# Altium schematic symbol library memory-idt.SCHLIB: 301 symbols (part 1 of 3)
Pins are listed as number, name and electrical type; pins without a type are passive.

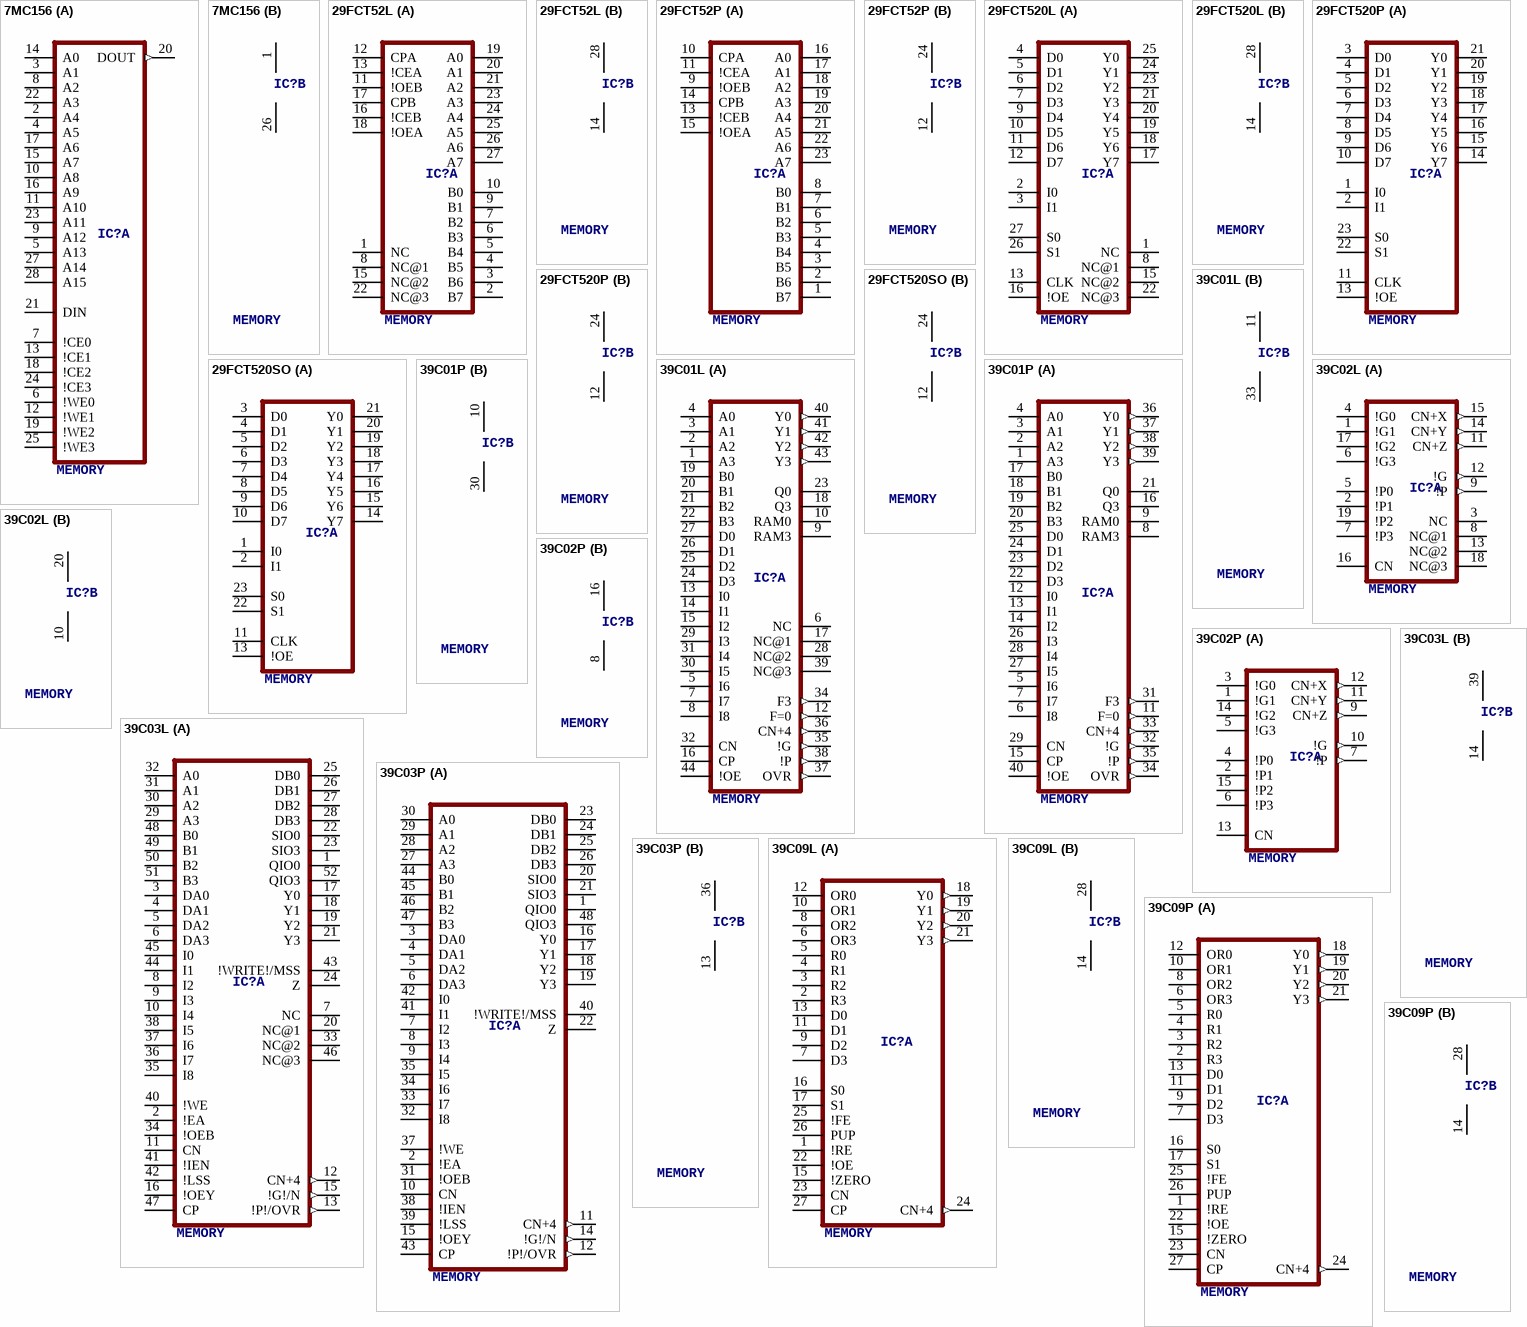
[diagram p0: symbols 7MC156 to 39C09P]

## 7MC156
designator IC?, comment MEMORY
OC_FARNELL: unknown; OC_NEWARK: unknown
footprint M16
part A pins: 2 A4, 3 A1, 4 A5, 5 A13, 6 !WE0, 7 !CE0, 8 A2, 9 A12, 10 A8, 11 A10, 12 !WE1, 13 !CE1, 14 A0, 15 A7, 16 A9, 17 A6, 18 !CE2, 19 !WE2, 20 DOUT (out), 21 DIN, 22 A3, 23 A11, 24 !CE3, 25 !WE3, 27 A14, 28 A15
part B pins: 1 VCC (power), 26 GND (power)

## 29FCT52L
designator IC?, comment MEMORY
OC_FARNELL: unknown; OC_NEWARK: unknown
footprint L28-1
part A pins: 1 NC, 2 B7, 3 B6, 4 B5, 5 B4, 6 B3, 7 B2, 8 NC@1, 9 B1, 10 B0, 11 !OEB, 12 CPA, 13 !CEA, 15 NC@2, 16 !CEB, 17 CPB, 18 !OEA, 19 A0, 20 A1, 21 A2, 22 NC@3, 23 A3, 24 A4, 25 A5, 26 A6, 27 A7
part B pins: 14 GND (power), 28 VCC (power)

## 29FCT52P
designator IC?, comment MEMORY
OC_FARNELL: unknown; OC_NEWARK: unknown
footprint DIL24-6
part A pins: 1 B7, 2 B6, 3 B5, 4 B4, 5 B3, 6 B2, 7 B1, 8 B0, 9 !OEB, 10 CPA, 11 !CEA, 13 !CEB, 14 CPB, 15 !OEA, 16 A0, 17 A1, 18 A2, 19 A3, 20 A4, 21 A5, 22 A6, 23 A7
part B pins: 12 GND (power), 24 VCC (power)

## 29FCT520L
designator IC?, comment MEMORY
OC_FARNELL: unknown; OC_NEWARK: unknown
footprint L28-1
part A pins: 1 NC, 2 I0, 3 I1, 4 D0, 5 D1, 6 D2, 7 D3, 8 NC@1, 9 D4, 10 D5, 11 D6, 12 D7, 13 CLK, 15 NC@2, 16 !OE, 17 Y7, 18 Y6, 19 Y5, 20 Y4, 21 Y3, 22 NC@3, 23 Y2, 24 Y1, 25 Y0, 26 S1, 27 S0
part B pins: 14 GND (power), 28 VCC (power)

## 29FCT520P
designator IC?, comment MEMORY
MPN: CY29FCT520ATPC; OC_FARNELL: 1741456; OC_NEWARK: 50R5497
footprint DIL24-6
part A pins: 1 I0, 2 I1, 3 D0, 4 D1, 5 D2, 6 D3, 7 D4, 8 D5, 9 D6, 10 D7, 11 CLK, 13 !OE, 14 Y7, 15 Y6, 16 Y5, 17 Y4, 18 Y3, 19 Y2, 20 Y1, 21 Y0, 22 S1, 23 S0
part B pins: 12 GND (power), 24 VCC (power)

## 29FCT520SO
designator IC?, comment MEMORY
MPN: CY29FCT520ATSOC; OC_FARNELL: 1407564; OC_NEWARK: 34R7401
footprint SO24-2
part A pins: 1 I0, 2 I1, 3 D0, 4 D1, 5 D2, 6 D3, 7 D4, 8 D5, 9 D6, 10 D7, 11 CLK, 13 !OE, 14 Y7, 15 Y6, 16 Y5, 17 Y4, 18 Y3, 19 Y2, 20 Y1, 21 Y0, 22 S1, 23 S0
part B pins: 12 GND (power), 24 VCC (power)

## 39C01L
designator IC?, comment MEMORY
OC_FARNELL: unknown; OC_NEWARK: unknown
footprint L44-1
part A pins: 1 A3, 2 A2, 3 A1, 4 A0, 5 I6, 6 NC, 7 I7, 8 I8, 9 RAM3, 10 RAM0, 12 F=0 (out), 13 I0, 14 I1, 15 I2, 16 CP, 17 NC@1, 18 Q3, 19 B0, 20 B1, 21 B2, 22 B3, 23 Q0, 24 D3, 25 D2, 26 D1, 27 D0, 28 NC@2, 29 I3, 30 I5, 31 I4, 32 CN, 34 F3 (out), 35 !G (out), 36 CN+4 (out), 37 OVR (out), 38 !P (out), 39 NC@3, 40 Y0 (out), 41 Y1 (out), 42 Y2 (out), 43 Y3 (out), 44 !OE
part B pins: 11 VCC (power), 33 GND (power)

## 39C01P
designator IC?, comment MEMORY
OC_FARNELL: unknown; OC_NEWARK: unknown
footprint DIL40
part A pins: 1 A3, 2 A2, 3 A1, 4 A0, 5 I6, 6 I8, 7 I7, 8 RAM3, 9 RAM0, 11 F=0 (out), 12 I0, 13 I1, 14 I2, 15 CP, 16 Q3, 17 B0, 18 B1, 19 B2, 20 B3, 21 Q0, 22 D3, 23 D2, 24 D1, 25 D0, 26 I3, 27 I5, 28 I4, 29 CN, 31 F3 (out), 32 !G (out), 33 CN+4 (out), 34 OVR (out), 35 !P (out), 36 Y0 (out), 37 Y1 (out), 38 Y2 (out), 39 Y3 (out), 40 !OE
part B pins: 10 VCC (power), 30 GND (power)

## 39C02L
designator IC?, comment MEMORY
OC_FARNELL: unknown; OC_NEWARK: unknown
footprint L20-2
part A pins: 1 !G1, 2 !P1, 3 NC, 4 !G0, 5 !P0, 6 !G3, 7 !P3, 8 NC@1, 9 !P (out), 11 CN+Z (out), 12 !G (out), 13 NC@2, 14 CN+Y (out), 15 CN+X (out), 16 CN, 17 !G2, 18 NC@3, 19 !P2
part B pins: 10 GND (power), 20 VCC (power)

## 39C02P
designator IC?, comment MEMORY
OC_FARNELL: unknown; OC_NEWARK: unknown
footprint DIL16
part A pins: 1 !G1, 2 !P1, 3 !G0, 4 !P0, 5 !G3, 6 !P3, 7 !P (out), 9 CN+Z (out), 10 !G (out), 11 CN+Y (out), 12 CN+X (out), 13 CN, 14 !G2, 15 !P2
part B pins: 8 GND (power), 16 VCC (power)

## 39C03L
designator IC?, comment MEMORY
OC_FARNELL: unknown; OC_NEWARK: unknown
footprint L52-1
part A pins: 1 QIO0, 2 !EA, 3 DA0, 4 DA1, 5 DA2, 6 DA3, 7 NC, 8 I2, 9 I3, 10 I4, 11 CN, 12 CN+4 (out), 13 !P!/OVR (out), 15 !G!/N (out), 16 !OEY, 17 Y0, 18 Y1, 19 Y2, 20 NC@1, 21 Y3, 22 SIO0, 23 SIO3, 24 Z, 25 DB0, 26 DB1, 27 DB2, 28 DB3, 29 A3, 30 A2, 31 A1, 32 A0, 33 NC@2, 34 !OEB, 35 I8, 36 I7, 37 I6, 38 I5, 40 !WE, 41 !IEN, 42 !LSS, 43 !WRITE!/MSS, 44 I1, 45 I0, 46 NC@3, 47 CP, 48 B0, 49 B1, 50 B2, 51 B3, 52 QIO3
part B pins: 14 GND (power), 39 VCC (power)

## 39C03P
designator IC?, comment MEMORY
OC_FARNELL: unknown; OC_NEWARK: unknown
footprint DIL48
part A pins: 1 QIO0, 2 !EA, 3 DA0, 4 DA1, 5 DA2, 6 DA3, 7 I2, 8 I3, 9 I4, 10 CN, 11 CN+4 (out), 12 !P!/OVR (out), 14 !G!/N (out), 15 !OEY, 16 Y0, 17 Y1, 18 Y2, 19 Y3, 20 SIO0, 21 SIO3, 22 Z, 23 DB0, 24 DB1, 25 DB2, 26 DB3, 27 A3, 28 A2, 29 A1, 30 A0, 31 !OEB, 32 I8, 33 I7, 34 I6, 35 I5, 37 !WE, 38 !IEN, 39 !LSS, 40 !WRITE!/MSS, 41 I1, 42 I0, 43 CP, 44 B0, 45 B1, 46 B2, 47 B3, 48 QIO3
part B pins: 13 GND (power), 36 VCC (power)

## 39C09L
designator IC?, comment MEMORY
OC_FARNELL: unknown; OC_NEWARK: unknown
footprint L28-1
part A pins: 1 !RE, 2 R3, 3 R2, 4 R1, 5 R0, 6 OR3, 7 D3, 8 OR2, 9 D2, 10 OR1, 11 D1, 12 OR0, 13 D0, 15 !ZERO, 16 S0, 17 S1, 18 Y0 (out), 19 Y1 (out), 20 Y2 (out), 21 Y3 (out), 22 !OE, 23 CN, 24 CN+4 (out), 25 !FE, 26 PUP, 27 CP
part B pins: 14 GND (power), 28 VCC (power)

## 39C09P
designator IC?, comment MEMORY
OC_FARNELL: unknown; OC_NEWARK: unknown
footprint DIL28-6
part A pins: 1 !RE, 2 R3, 3 R2, 4 R1, 5 R0, 6 OR3, 7 D3, 8 OR2, 9 D2, 10 OR1, 11 D1, 12 OR0, 13 D0, 15 !ZERO, 16 S0, 17 S1, 18 Y0 (out), 19 Y1 (out), 20 Y2 (out), 21 Y3 (out), 22 !OE, 23 CN, 24 CN+4 (out), 25 !FE, 26 PUP, 27 CP
part B pins: 14 GND (power), 28 VCC (power)

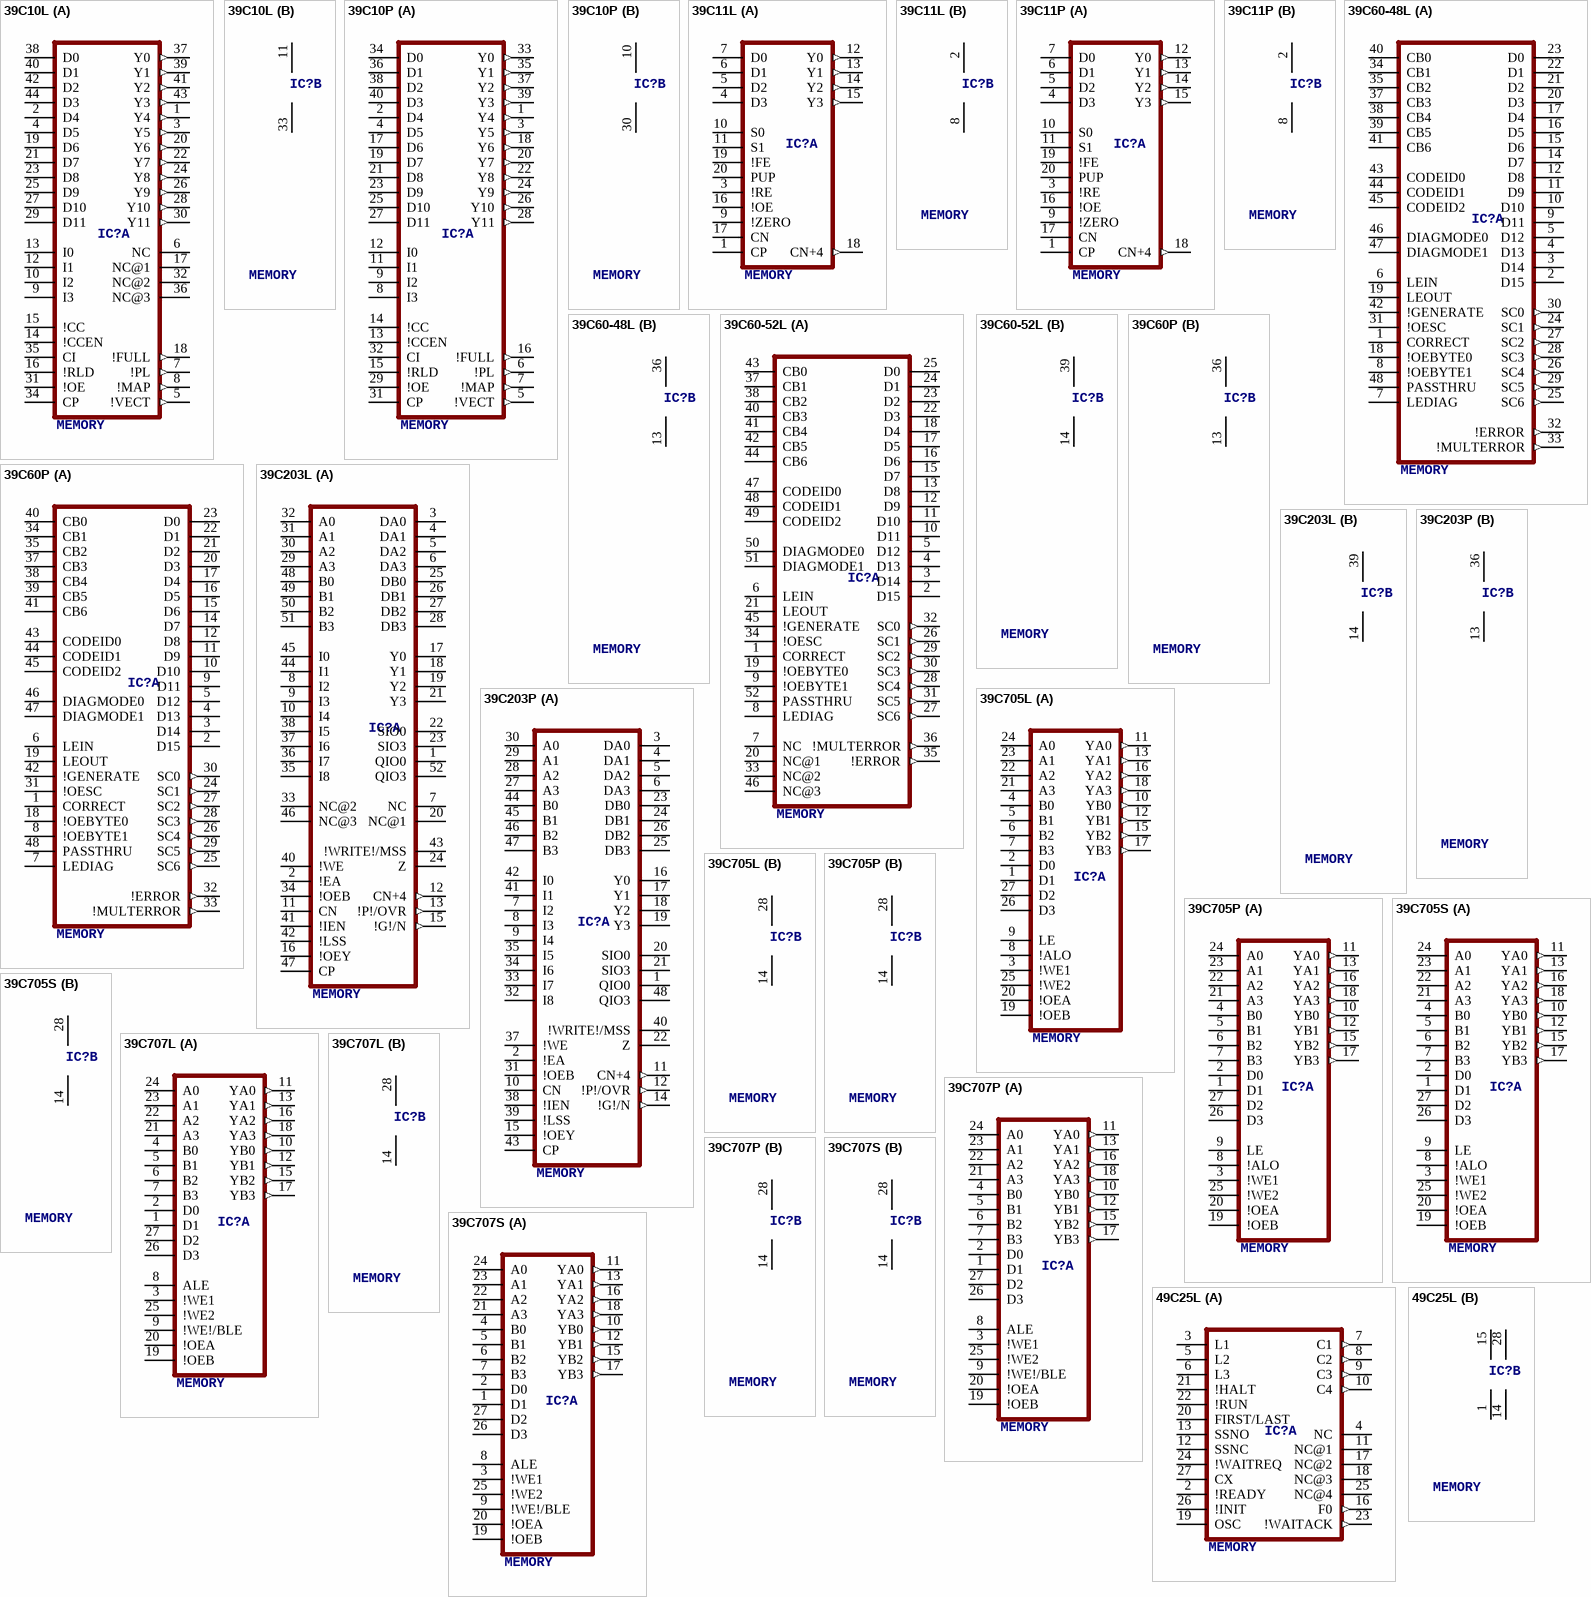
[diagram p1: symbols 39C10L to 49C25L]

## 39C10L
designator IC?, comment MEMORY
OC_FARNELL: unknown; OC_NEWARK: unknown
footprint L44-1
part A pins: 1 Y4 (out), 2 D4, 3 Y5 (out), 4 D5, 5 !VECT (out), 6 NC, 7 !PL (out), 8 !MAP (out), 9 I3, 10 I2, 12 I1, 13 I0, 14 !CCEN, 15 !CC, 16 !RLD, 17 NC@1, 18 !FULL (out), 19 D6, 20 Y6 (out), 21 D7, 22 Y7 (out), 23 D8, 24 Y8 (out), 25 D9, 26 Y9 (out), 27 D10, 28 Y10 (out), 29 D11, 30 Y11 (out), 31 !OE, 32 NC@2, 34 CP, 35 CI, 36 NC@3, 37 Y0 (out), 38 D0, 39 Y1 (out), 40 D1, 41 Y2 (out), 42 D2, 43 Y3 (out), 44 D3
part B pins: 11 VCC (power), 33 GND (power)

## 39C10P
designator IC?, comment MEMORY
OC_FARNELL: unknown; OC_NEWARK: unknown
footprint DIL40
part A pins: 1 Y4 (out), 2 D4, 3 Y5 (out), 4 D5, 5 !VECT (out), 6 !PL (out), 7 !MAP (out), 8 I3, 9 I2, 11 I1, 12 I0, 13 !CCEN, 14 !CC, 15 !RLD, 16 !FULL (out), 17 D6, 18 Y6 (out), 19 D7, 20 Y7 (out), 21 D8, 22 Y8 (out), 23 D9, 24 Y9 (out), 25 D10, 26 Y10 (out), 27 D11, 28 Y11 (out), 29 !OE, 31 CP, 32 CI, 33 Y0 (out), 34 D0, 35 Y1 (out), 36 D1, 37 Y2 (out), 38 D2, 39 Y3 (out), 40 D3
part B pins: 10 VCC (power), 30 GND (power)

## 39C11L
designator IC?, comment MEMORY
OC_FARNELL: unknown; OC_NEWARK: unknown
footprint L20-2
part A pins: 1 CP, 3 !RE, 4 D3, 5 D2, 6 D1, 7 D0, 9 !ZERO, 10 S0, 11 S1, 12 Y0 (out), 13 Y1 (out), 14 Y2 (out), 15 Y3 (out), 16 !OE, 17 CN, 18 CN+4 (out), 19 !FE, 20 PUP
part B pins: 2 VCC (power), 8 GND (power)

## 39C11P
designator IC?, comment MEMORY
OC_FARNELL: unknown; OC_NEWARK: unknown
footprint DIL20
part A pins: 1 CP, 3 !RE, 4 D3, 5 D2, 6 D1, 7 D0, 9 !ZERO, 10 S0, 11 S1, 12 Y0 (out), 13 Y1 (out), 14 Y2 (out), 15 Y3 (out), 16 !OE, 17 CN, 18 CN+4 (out), 19 !FE, 20 PUP
part B pins: 2 VCC (power), 8 GND (power)

## 39C60-48L
designator IC?, comment MEMORY
OC_FARNELL: unknown; OC_NEWARK: unknown
footprint L48-1
part A pins: 1 CORRECT, 2 D15, 3 D14, 4 D13, 5 D12, 6 LEIN, 7 LEDIAG, 8 !OEBYTE1, 9 D11, 10 D10, 11 D9, 12 D8, 14 D7, 15 D6, 16 D5, 17 D4, 18 !OEBYTE0, 19 LEOUT, 20 D3, 21 D2, 22 D1, 23 D0, 24 SC1 (out), 25 SC6 (out), 26 SC4 (out), 27 SC2 (out), 28 SC3 (out), 29 SC5 (out), 30 SC0 (out), 31 !OESC, 32 !ERROR (out), 33 !MULTERROR (out), 34 CB1, 35 CB2, 37 CB3, 38 CB4, 39 CB5, 40 CB0, 41 CB6, 42 !GENERATE, 43 CODEID0, 44 CODEID1, 45 CODEID2, 46 DIAGMODE0, 47 DIAGMODE1, 48 PASSTHRU
part B pins: 13 GND (power), 36 VCC (power)

## 39C60-52L
designator IC?, comment MEMORY
OC_FARNELL: unknown; OC_NEWARK: unknown
footprint L52-1
part A pins: 1 CORRECT, 2 D15, 3 D14, 4 D13, 5 D12, 6 LEIN, 7 NC, 8 LEDIAG, 9 !OEBYTE1, 10 D11, 11 D10, 12 D9, 13 D8, 15 D7, 16 D6, 17 D5, 18 D4, 19 !OEBYTE0, 20 NC@1, 21 LEOUT, 22 D3, 23 D2, 24 D1, 25 D0, 26 SC1 (out), 27 SC6 (out), 28 SC4 (out), 29 SC2 (out), 30 SC3 (out), 31 SC5 (out), 32 SC0 (out), 33 NC@2, 34 !OESC, 35 !ERROR (out), 36 !MULTERROR (out), 37 CB1, 38 CB2, 40 CB3, 41 CB4, 42 CB5, 43 CB0, 44 CB6, 45 !GENERATE, 46 NC@3, 47 CODEID0, 48 CODEID1, 49 CODEID2, 50 DIAGMODE0, 51 DIAGMODE1, 52 PASSTHRU
part B pins: 14 GND (power), 39 VCC (power)

## 39C60P
designator IC?, comment MEMORY
OC_FARNELL: unknown; OC_NEWARK: unknown
footprint DIL48
part A pins: 1 CORRECT, 2 D15, 3 D14, 4 D13, 5 D12, 6 LEIN, 7 LEDIAG, 8 !OEBYTE1, 9 D11, 10 D10, 11 D9, 12 D8, 14 D7, 15 D6, 16 D5, 17 D4, 18 !OEBYTE0, 19 LEOUT, 20 D3, 21 D2, 22 D1, 23 D0, 24 SC1 (out), 25 SC6 (out), 26 SC4 (out), 27 SC2 (out), 28 SC3 (out), 29 SC5 (out), 30 SC0 (out), 31 !OESC, 32 !ERROR (out), 33 !MULTERROR (out), 34 CB1, 35 CB2, 37 CB3, 38 CB4, 39 CB5, 40 CB0, 41 CB6, 42 !GENERATE, 43 CODEID0, 44 CODEID1, 45 CODEID2, 46 DIAGMODE0, 47 DIAGMODE1, 48 PASSTHRU
part B pins: 13 GND (power), 36 VCC (power)

## 39C203L
designator IC?, comment MEMORY
OC_FARNELL: unknown; OC_NEWARK: unknown
footprint L52-1
part A pins: 1 QIO0, 2 !EA, 3 DA0, 4 DA1, 5 DA2, 6 DA3, 7 NC, 8 I2, 9 I3, 10 I4, 11 CN, 12 CN+4 (out), 13 !P!/OVR (out), 15 !G!/N (out), 16 !OEY, 17 Y0, 18 Y1, 19 Y2, 20 NC@1, 21 Y3, 22 SIO0, 23 SIO3, 24 Z, 25 DB0, 26 DB1, 27 DB2, 28 DB3, 29 A3, 30 A2, 31 A1, 32 A0, 33 NC@2, 34 !OEB, 35 I8, 36 I7, 37 I6, 38 I5, 40 !WE, 41 !IEN, 42 !LSS, 43 !WRITE!/MSS, 44 I1, 45 I0, 46 NC@3, 47 CP, 48 B0, 49 B1, 50 B2, 51 B3, 52 QIO3
part B pins: 14 GND (power), 39 VCC (power)

## 39C203P
designator IC?, comment MEMORY
OC_FARNELL: unknown; OC_NEWARK: unknown
footprint DIL48
part A pins: 1 QIO0, 2 !EA, 3 DA0, 4 DA1, 5 DA2, 6 DA3, 7 I2, 8 I3, 9 I4, 10 CN, 11 CN+4 (out), 12 !P!/OVR (out), 14 !G!/N (out), 15 !OEY, 16 Y0, 17 Y1, 18 Y2, 19 Y3, 20 SIO0, 21 SIO3, 22 Z, 23 DB0, 24 DB1, 25 DB3, 26 DB2, 27 A3, 28 A2, 29 A1, 30 A0, 31 !OEB, 32 I8, 33 I7, 34 I6, 35 I5, 37 !WE, 38 !IEN, 39 !LSS, 40 !WRITE!/MSS, 41 I1, 42 I0, 43 CP, 44 B0, 45 B1, 46 B2, 47 B3, 48 QIO3
part B pins: 13 GND (power), 36 VCC (power)

## 39C705L
designator IC?, comment MEMORY
OC_FARNELL: unknown; OC_NEWARK: unknown
footprint L28-1
part A pins: 1 D1, 2 D0, 3 !WE1, 4 B0, 5 B1, 6 B2, 7 B3, 8 !ALO, 9 LE, 10 YB0 (out), 11 YA0 (out), 12 YB1 (out), 13 YA1 (out), 15 YB2 (out), 16 YA2 (out), 17 YB3 (out), 18 YA3 (out), 19 !OEB, 20 !OEA, 21 A3, 22 A2, 23 A1, 24 A0, 25 !WE2, 26 D3, 27 D2
part B pins: 14 GND (power), 28 VCC (power)

## 39C705P
designator IC?, comment MEMORY
OC_FARNELL: unknown; OC_NEWARK: unknown
footprint DIL28-6
part A pins: 1 D1, 2 D0, 3 !WE1, 4 B0, 5 B1, 6 B2, 7 B3, 8 !ALO, 9 LE, 10 YB0 (out), 11 YA0 (out), 12 YB1 (out), 13 YA1 (out), 15 YB2 (out), 16 YA2 (out), 17 YB3 (out), 18 YA3 (out), 19 !OEB, 20 !OEA, 21 A3, 22 A2, 23 A1, 24 A0, 25 !WE2, 26 D3, 27 D2
part B pins: 14 GND (power), 28 VCC (power)

## 39C705S
designator IC?, comment MEMORY
OC_FARNELL: unknown; OC_NEWARK: unknown
footprint SO28-3
part A pins: 1 D1, 2 D0, 3 !WE1, 4 B0, 5 B1, 6 B2, 7 B3, 8 !ALO, 9 LE, 10 YB0 (out), 11 YA0 (out), 12 YB1 (out), 13 YA1 (out), 15 YB2 (out), 16 YA2 (out), 17 YB3 (out), 18 YA3 (out), 19 !OEB, 20 !OEA, 21 A3, 22 A2, 23 A1, 24 A0, 25 !WE2, 26 D3, 27 D2
part B pins: 14 GND (power), 28 VCC (power)

## 39C707L
designator IC?, comment MEMORY
OC_FARNELL: unknown; OC_NEWARK: unknown
footprint L28-1
part A pins: 1 D1, 2 D0, 3 !WE1, 4 B0, 5 B1, 6 B2, 7 B3, 8 ALE, 9 !WE!/BLE, 10 YB0 (out), 11 YA0 (out), 12 YB1 (out), 13 YA1 (out), 15 YB2 (out), 16 YA2 (out), 17 YB3 (out), 18 YA3 (out), 19 !OEB, 20 !OEA, 21 A3, 22 A2, 23 A1, 24 A0, 25 !WE2, 26 D3, 27 D2
part B pins: 14 GND (power), 28 VCC (power)

## 39C707P
designator IC?, comment MEMORY
OC_FARNELL: unknown; OC_NEWARK: unknown
footprint DIL28-6
part A pins: 1 D1, 2 D0, 3 !WE1, 4 B0, 5 B1, 6 B2, 7 B3, 8 ALE, 9 !WE!/BLE, 10 YB0 (out), 11 YA0 (out), 12 YB1 (out), 13 YA1 (out), 15 YB2 (out), 16 YA2 (out), 17 YB3 (out), 18 YA3 (out), 19 !OEB, 20 !OEA, 21 A3, 22 A2, 23 A1, 24 A0, 25 !WE2, 26 D3, 27 D2
part B pins: 14 GND (power), 28 VCC (power)

## 39C707S
designator IC?, comment MEMORY
OC_FARNELL: unknown; OC_NEWARK: unknown
footprint SO28-3
part A pins: 1 D1, 2 D0, 3 !WE1, 4 B0, 5 B1, 6 B2, 7 B3, 8 ALE, 9 !WE!/BLE, 10 YB0 (out), 11 YA0 (out), 12 YB1 (out), 13 YA1 (out), 15 YB2 (out), 16 YA2 (out), 17 YB3 (out), 18 YA3 (out), 19 !OEB, 20 !OEA, 21 A3, 22 A2, 23 A1, 24 A0, 25 !WE2, 26 D3, 27 D2
part B pins: 14 GND (power), 28 VCC (power)

## 49C25L
designator IC?, comment MEMORY
OC_FARNELL: unknown; OC_NEWARK: unknown
footprint L28-1
part A pins: 2 !READY, 3 L1, 4 NC, 5 L2, 6 L3, 7 C1 (out), 8 C2 (out), 9 C3 (out), 10 C4 (out), 11 NC@1, 12 SSNC, 13 SSNO, 16 F0 (out), 17 NC@2, 18 NC@3, 19 OSC, 20 FIRST/LAST, 21 !HALT, 22 !RUN, 23 !WAITACK (out), 24 !WAITREQ, 25 NC@4, 26 !INIT, 27 CX
part B pins: 1 GND (power), 14 GND@1 (power), 15 VCC (power), 28 VCC@1 (power)

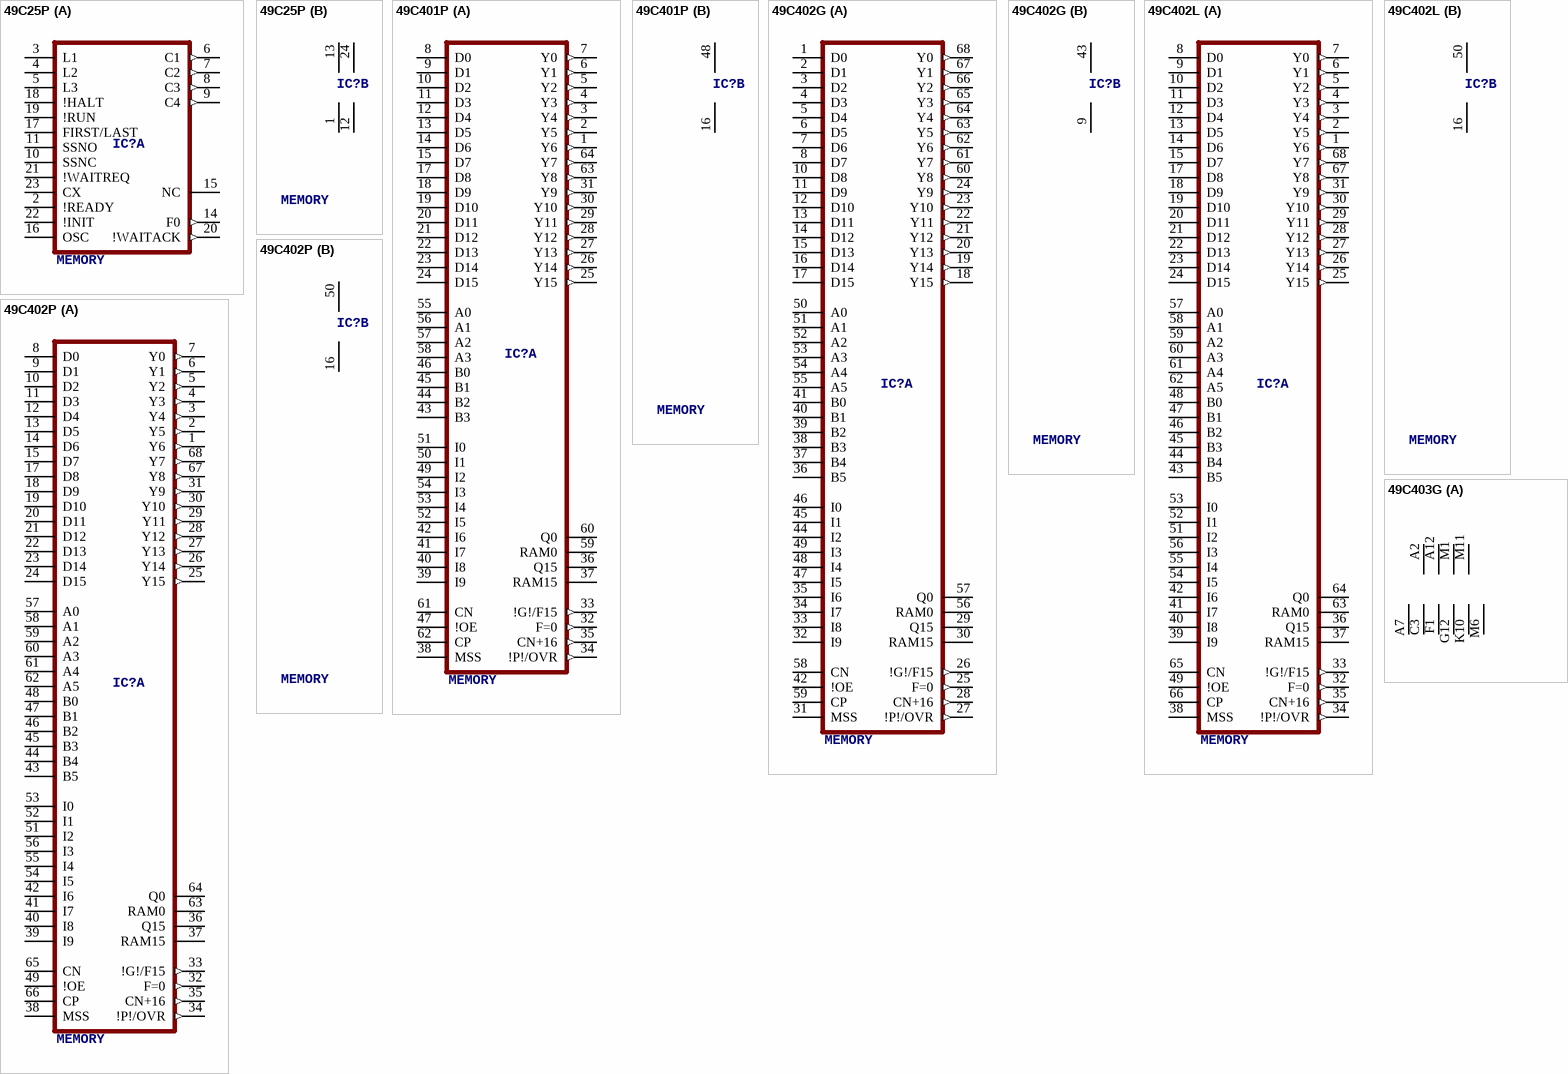
[diagram p2: symbols 49C25P to 49C403G]

## 49C25P
designator IC?, comment MEMORY
OC_FARNELL: unknown; OC_NEWARK: unknown
footprint DIL24-6
part A pins: 2 !READY, 3 L1, 4 L2, 5 L3, 6 C1 (out), 7 C2 (out), 8 C3 (out), 9 C4 (out), 10 SSNC, 11 SSNO, 14 F0 (out), 15 NC, 16 OSC, 17 FIRST/LAST, 18 !HALT, 19 !RUN, 20 !WAITACK (out), 21 !WAITREQ, 22 !INIT, 23 CX
part B pins: 1 GND (power), 12 GND@1 (power), 13 VCC (power), 24 VCC@1 (power)

## 49C401P
designator IC?, comment MEMORY
OC_FARNELL: unknown; OC_NEWARK: unknown
footprint C64-1
part A pins: 1 Y6 (out), 2 Y5 (out), 3 Y4 (out), 4 Y3 (out), 5 Y2 (out), 6 Y1 (out), 7 Y0 (out), 8 D0, 9 D1, 10 D2, 11 D3, 12 D4, 13 D5, 14 D6, 15 D7, 17 D8, 18 D9, 19 D10, 20 D11, 21 D12, 22 D13, 23 D14, 24 D15, 25 Y15 (out), 26 Y14 (out), 27 Y13 (out), 28 Y12 (out), 29 Y11 (out), 30 Y10 (out), 31 Y9 (out), 32 F=0 (out), 33 !G!/F15 (out), 34 !P!/OVR (out), 35 CN+16 (out), 36 Q15, 37 RAM15, 38 MSS, 39 I9, 40 I8, 41 I7, 42 I6, 43 B3, 44 B2, 45 B1, 46 B0, 47 !OE, 49 I2, 50 I1, 51 I0, 52 I5, 53 I4, 54 I3, 55 A0, 56 A1, 57 A2, 58 A3, 59 RAM0, 60 Q0, 61 CN, 62 CP, 63 Y8 (out), 64 Y7 (out)
part B pins: 16 GND (power), 48 VCC (power)

## 49C402G
designator IC?, comment MEMORY
OC_FARNELL: unknown; OC_NEWARK: unknown
footprint G68-1
part A pins: 1 D0, 2 D1, 3 D2, 4 D3, 5 D4, 6 D5, 7 D6, 8 D7, 10 D8, 11 D9, 12 D10, 13 D11, 14 D12, 15 D13, 16 D14, 17 D15, 18 Y15 (out), 19 Y14 (out), 20 Y13 (out), 21 Y12 (out), 22 Y11 (out), 23 Y10 (out), 24 Y9 (out), 25 F=0 (out), 26 !G!/F15 (out), 27 !P!/OVR (out), 28 CN+16 (out), 29 Q15, 30 RAM15, 31 MSS, 32 I9, 33 I8, 34 I7, 35 I6, 36 B5, 37 B4, 38 B3, 39 B2, 40 B1, 41 B0, 42 !OE, 44 I2, 45 I1, 46 I0, 47 I5, 48 I4, 49 I3, 50 A0, 51 A1, 52 A2, 53 A3, 54 A4, 55 A5, 56 RAM0, 57 Q0, 58 CN, 59 CP, 60 Y8 (out), 61 Y7 (out), 62 Y6 (out), 63 Y5 (out), 64 Y4 (out), 65 Y3 (out), 66 Y2 (out), 67 Y1 (out), 68 Y0 (out)
part B pins: 9 GND (power), 43 VCC (power)

## 49C402L
designator IC?, comment MEMORY
OC_FARNELL: unknown; OC_NEWARK: unknown
footprint L68-2
part A pins: 1 Y6 (out), 2 Y5 (out), 3 Y4 (out), 4 Y3 (out), 5 Y2 (out), 6 Y1 (out), 7 Y0 (out), 8 D0, 9 D1, 10 D2, 11 D3, 12 D4, 13 D5, 14 D6, 15 D7, 17 D8, 18 D9, 19 D10, 20 D11, 21 D12, 22 D13, 23 D14, 24 D15, 25 Y15 (out), 26 Y14 (out), 27 Y13 (out), 28 Y12 (out), 29 Y11 (out), 30 Y10 (out), 31 Y9 (out), 32 F=0 (out), 33 !G!/F15 (out), 34 !P!/OVR (out), 35 CN+16 (out), 36 Q15, 37 RAM15, 38 MSS, 39 I9, 40 I8, 41 I7, 42 I6, 43 B5, 44 B4, 45 B3, 46 B2, 47 B1, 48 B0, 49 !OE, 51 I2, 52 I1, 53 I0, 54 I5, 55 I4, 56 I3, 57 A0, 58 A1, 59 A2, 60 A3, 61 A4, 62 A5, 63 RAM0, 64 Q0, 65 CN, 66 CP, 67 Y8 (out), 68 Y7 (out)
part B pins: 16 GND (power), 50 VCC (power)

## 49C402P
designator IC?, comment MEMORY
OC_FARNELL: unknown; OC_NEWARK: unknown
footprint C68-1
part A pins: 1 Y6 (out), 2 Y5 (out), 3 Y4 (out), 4 Y3 (out), 5 Y2 (out), 6 Y1 (out), 7 Y0 (out), 8 D0, 9 D1, 10 D2, 11 D3, 12 D4, 13 D5, 14 D6, 15 D7, 17 D8, 18 D9, 19 D10, 20 D11, 21 D12, 22 D13, 23 D14, 24 D15, 25 Y15 (out), 26 Y14 (out), 27 Y13 (out), 28 Y12 (out), 29 Y11 (out), 30 Y10 (out), 31 Y9 (out), 32 F=0 (out), 33 !G!/F15 (out), 34 !P!/OVR (out), 35 CN+16 (out), 36 Q15, 37 RAM15, 38 MSS, 39 I9, 40 I8, 41 I7, 42 I6, 43 B5, 44 B4, 45 B3, 46 B2, 47 B1, 48 B0, 49 !OE, 51 I2, 52 I1, 53 I0, 54 I5, 55 I4, 56 I3, 57 A0, 58 A1, 59 A2, 60 A3, 61 A4, 62 A5, 63 RAM0, 64 Q0, 65 CN, 66 CP, 67 Y8 (out), 68 Y7 (out)
part B pins: 16 GND (power), 50 VCC (power)

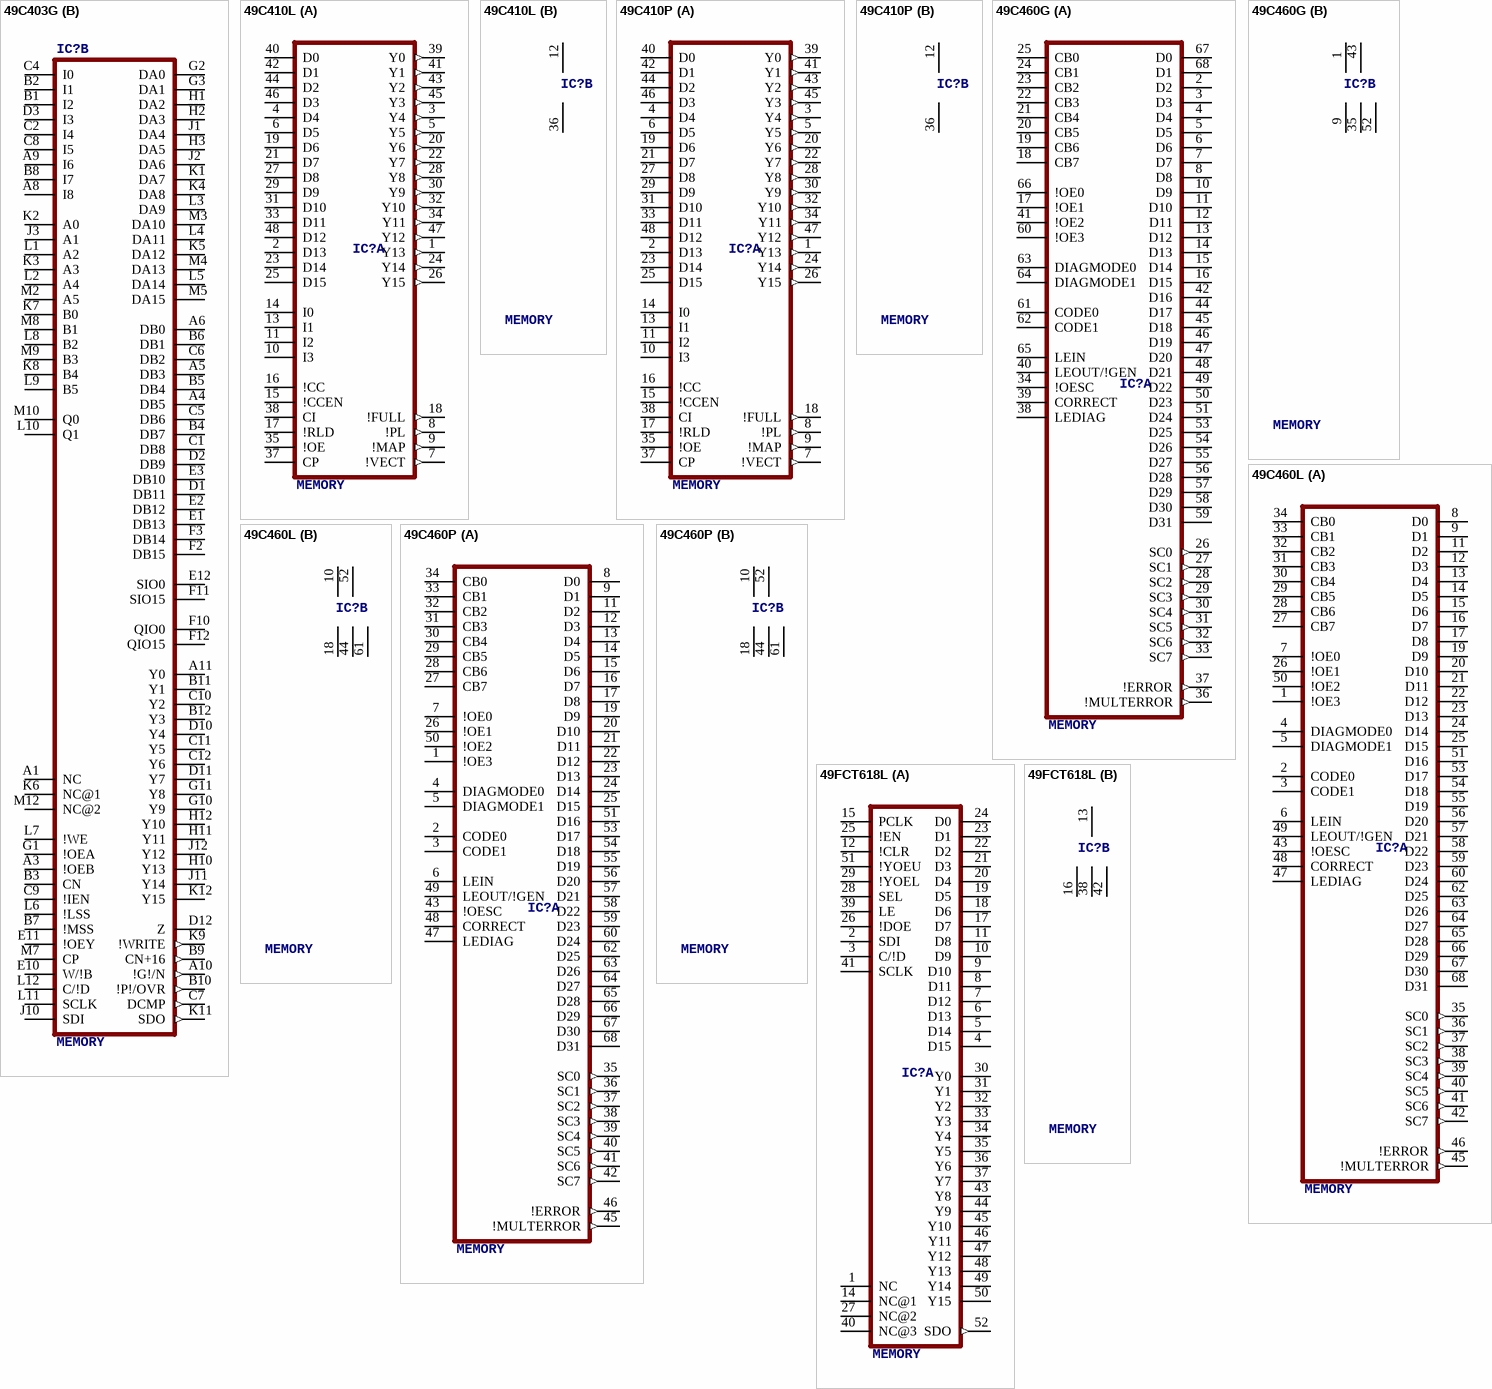
[diagram p3: symbols 49C403G to 49FCT618L]

## 49C403G
designator IC?, comment MEMORY
OC_FARNELL: unknown; OC_NEWARK: unknown
footprint PGA-108
part A pins: A2 VCC (power), A7 GND (power), A12 VCC@1 (power), C3 GND@1 (power), F1 GND@2 (power), G12 GND@3 (power), K10 GND@4 (power), M1 VCC@2 (power), M6 GND@5 (power), M11 VCC@3 (power)
part B pins: A1 NC, A3 !OEB, A4 DB5, A5 DB3, A6 DB0, A8 I8, A9 I6, A10 !G!/N (out), A11 Y0, B1 I2, B2 I1, B3 CN, B4 DB7, B5 DB4, B6 DB1, B7 !MSS, B8 I7, B9 CN+16 (out), B10 !P!/OVR (out), B11 Y1, B12 Y3, C1 DB8, C2 I4, C4 I0, C5 DB6, C6 DB2, C7 DCMP (out), C8 I5, C9 !IEN, C10 Y2, C11 Y5, C12 Y6, D1 DB11, D2 DB9, D3 I3, D10 Y4, D11 Y7, D12 Z, E1 DB13, E2 DB12, E3 DB10, E10 W/!B, E11 !OEY, E12 SIO0, F2 DB15, F3 DB14, F10 QIO0, F11 SIO15, F12 QIO15, G1 !OEA, G2 DA0, G3 DA1, G10 Y9, G11 Y8, H1 DA2, H2 DA3, H3 DA5, H10 Y13, H11 Y11, H12 Y10, J1 DA4, J2 DA6, J3 A1, J10 SDI, J11 Y14, J12 Y12, K1 DA7, K2 A0, K3 A3, K4 DA8, K5 DA12, K6 NC@1, K7 B0, K8 B4, K9 !WRITE (out), K11 SDO (out), K12 Y15, L1 A2, L2 A4, L3 DA9, L4 DA11, L5 DA14, L6 !LSS, L7 !WE, L8 B2, L9 B5, L10 Q1, L11 SCLK, L12 C/!D, M2 A5, M3 DA10, M4 DA13, M5 DA15, M7 CP, M8 B1, M9 B3, M10 Q0, M12 NC@2

## 49C410L
designator IC?, comment MEMORY
OC_FARNELL: unknown; OC_NEWARK: unknown
footprint L48-1
part A pins: 1 Y13 (out), 2 D13, 3 Y4 (out), 4 D4, 5 Y5 (out), 6 D5, 7 !VECT (out), 8 !PL (out), 9 !MAP (out), 10 I3, 11 I2, 13 I1, 14 I0, 15 !CCEN, 16 !CC, 17 !RLD, 18 !FULL (out), 19 D6, 20 Y6 (out), 21 D7, 22 Y7 (out), 23 D14, 24 Y14 (out), 25 D15, 26 Y15 (out), 27 D8, 28 Y8 (out), 29 D9, 30 Y9 (out), 31 D10, 32 Y10 (out), 33 D11, 34 Y11 (out), 35 !OE, 37 CP, 38 CI, 39 Y0 (out), 40 D0, 41 Y1 (out), 42 D1, 43 Y2 (out), 44 D2, 45 Y3 (out), 46 D3, 47 Y12 (out), 48 D12
part B pins: 12 VCC (power), 36 GND (power)

## 49C410P
designator IC?, comment MEMORY
OC_FARNELL: unknown; OC_NEWARK: unknown
footprint DIL48
part A pins: 1 Y13 (out), 2 D13, 3 Y4 (out), 4 D4, 5 Y5 (out), 6 D5, 7 !VECT (out), 8 !PL (out), 9 !MAP (out), 10 I3, 11 I2, 13 I1, 14 I0, 15 !CCEN, 16 !CC, 17 !RLD, 18 !FULL (out), 19 D6, 20 Y6 (out), 21 D7, 22 Y7 (out), 23 D14, 24 Y14 (out), 25 D15, 26 Y15 (out), 27 D8, 28 Y8 (out), 29 D9, 30 Y9 (out), 31 D10, 32 Y10 (out), 33 D11, 34 Y11 (out), 35 !OE, 37 CP, 38 CI, 39 Y0 (out), 40 D0, 41 Y1 (out), 42 D1, 43 Y2 (out), 44 D2, 45 Y3 (out), 46 D3, 47 Y12 (out), 48 D12
part B pins: 12 VCC (power), 36 GND (power)

## 49C460G
designator IC?, comment MEMORY
OC_FARNELL: unknown; OC_NEWARK: unknown
footprint G68-1
part A pins: 2 D2, 3 D3, 4 D4, 5 D5, 6 D6, 7 D7, 8 D8, 10 D9, 11 D10, 12 D11, 13 D12, 14 D13, 15 D14, 16 D15, 17 !OE1, 18 CB7, 19 CB6, 20 CB5, 21 CB4, 22 CB3, 23 CB2, 24 CB1, 25 CB0, 26 SC0 (out), 27 SC1 (out), 28 SC2 (out), 29 SC3 (out), 30 SC4 (out), 31 SC5 (out), 32 SC6 (out), 33 SC7 (out), 34 !OESC, 36 !MULTERROR (out), 37 !ERROR (out), 38 LEDIAG, 39 CORRECT, 40 LEOUT/!GEN, 41 !OE2, 42 D16, 44 D17, 45 D18, 46 D19, 47 D20, 48 D21, 49 D22, 50 D23, 51 D24, 53 D25, 54 D26, 55 D27, 56 D28, 57 D29, 58 D30, 59 D31, 60 !OE3, 61 CODE0, 62 CODE1, 63 DIAGMODE0, 64 DIAGMODE1, 65 LEIN, 66 !OE0, 67 D0, 68 D1
part B pins: 1 VCC (power), 9 GND (power), 35 GND@1 (power), 43 VCC@1 (power), 52 GND@2 (power)

## 49C460L
designator IC?, comment MEMORY
OC_FARNELL: unknown; OC_NEWARK: unknown
footprint L68-2
part A pins: 1 !OE3, 2 CODE0, 3 CODE1, 4 DIAGMODE0, 5 DIAGMODE1, 6 LEIN, 7 !OE0, 8 D0, 9 D1, 11 D2, 12 D3, 13 D4, 14 D5, 15 D6, 16 D7, 17 D8, 19 D9, 20 D10, 21 D11, 22 D12, 23 D13, 24 D14, 25 D15, 26 !OE1, 27 CB7, 28 CB6, 29 CB5, 30 CB4, 31 CB3, 32 CB2, 33 CB1, 34 CB0, 35 SC0 (out), 36 SC1 (out), 37 SC2 (out), 38 SC3 (out), 39 SC4 (out), 40 SC5 (out), 41 SC6 (out), 42 SC7 (out), 43 !OESC, 45 !MULTERROR (out), 46 !ERROR (out), 47 LEDIAG, 48 CORRECT, 49 LEOUT/!GEN, 50 !OE2, 51 D16, 53 D17, 54 D18, 55 D19, 56 D20, 57 D21, 58 D22, 59 D23, 60 D24, 62 D25, 63 D26, 64 D27, 65 D28, 66 D29, 67 D30, 68 D31
part B pins: 10 VCC (power), 18 GND (power), 44 GND@1 (power), 52 VCC@1 (power), 61 GND@2 (power)

## 49C460P
designator IC?, comment MEMORY
OC_FARNELL: unknown; OC_NEWARK: unknown
footprint C68-1
part A pins: 1 !OE3, 2 CODE0, 3 CODE1, 4 DIAGMODE0, 5 DIAGMODE1, 6 LEIN, 7 !OE0, 8 D0, 9 D1, 11 D2, 12 D3, 13 D4, 14 D5, 15 D6, 16 D7, 17 D8, 19 D9, 20 D10, 21 D11, 22 D12, 23 D13, 24 D14, 25 D15, 26 !OE1, 27 CB7, 28 CB6, 29 CB5, 30 CB4, 31 CB3, 32 CB2, 33 CB1, 34 CB0, 35 SC0 (out), 36 SC1 (out), 37 SC2 (out), 38 SC3 (out), 39 SC4 (out), 40 SC5 (out), 41 SC6 (out), 42 SC7 (out), 43 !OESC, 45 !MULTERROR (out), 46 !ERROR (out), 47 LEDIAG, 48 CORRECT, 49 LEOUT/!GEN, 50 !OE2, 51 D16, 53 D17, 54 D18, 55 D19, 56 D20, 57 D21, 58 D22, 59 D23, 60 D24, 62 D25, 63 D26, 64 D27, 65 D28, 66 D29, 67 D30, 68 D31
part B pins: 10 VCC (power), 18 GND (power), 44 GND@1 (power), 52 VCC@1 (power), 61 GND@2 (power)

## 49FCT618L
designator IC?, comment MEMORY
OC_FARNELL: unknown; OC_NEWARK: unknown
footprint L52-1
part A pins: 1 NC, 2 SDI, 3 C/!D, 4 D15, 5 D14, 6 D13, 7 D12, 8 D11, 9 D10, 10 D9, 11 D8, 12 !CLR, 14 NC@1, 15 PCLK, 17 D7, 18 D6, 19 D5, 20 D4, 21 D3, 22 D2, 23 D1, 24 D0, 25 !EN, 26 !DOE, 27 NC@2, 28 SEL, 29 !YOEL, 30 Y0, 31 Y1, 32 Y2, 33 Y3, 34 Y4, 35 Y5, 36 Y6, 37 Y7, 39 LE, 40 NC@3, 41 SCLK, 43 Y8, 44 Y9, 45 Y10, 46 Y11, 47 Y12, 48 Y13, 49 Y14, 50 Y15, 51 !YOEU, 52 SDO (out)
part B pins: 13 VCC (power), 16 GND (power), 38 GND@1 (power), 42 GND@2 (power)

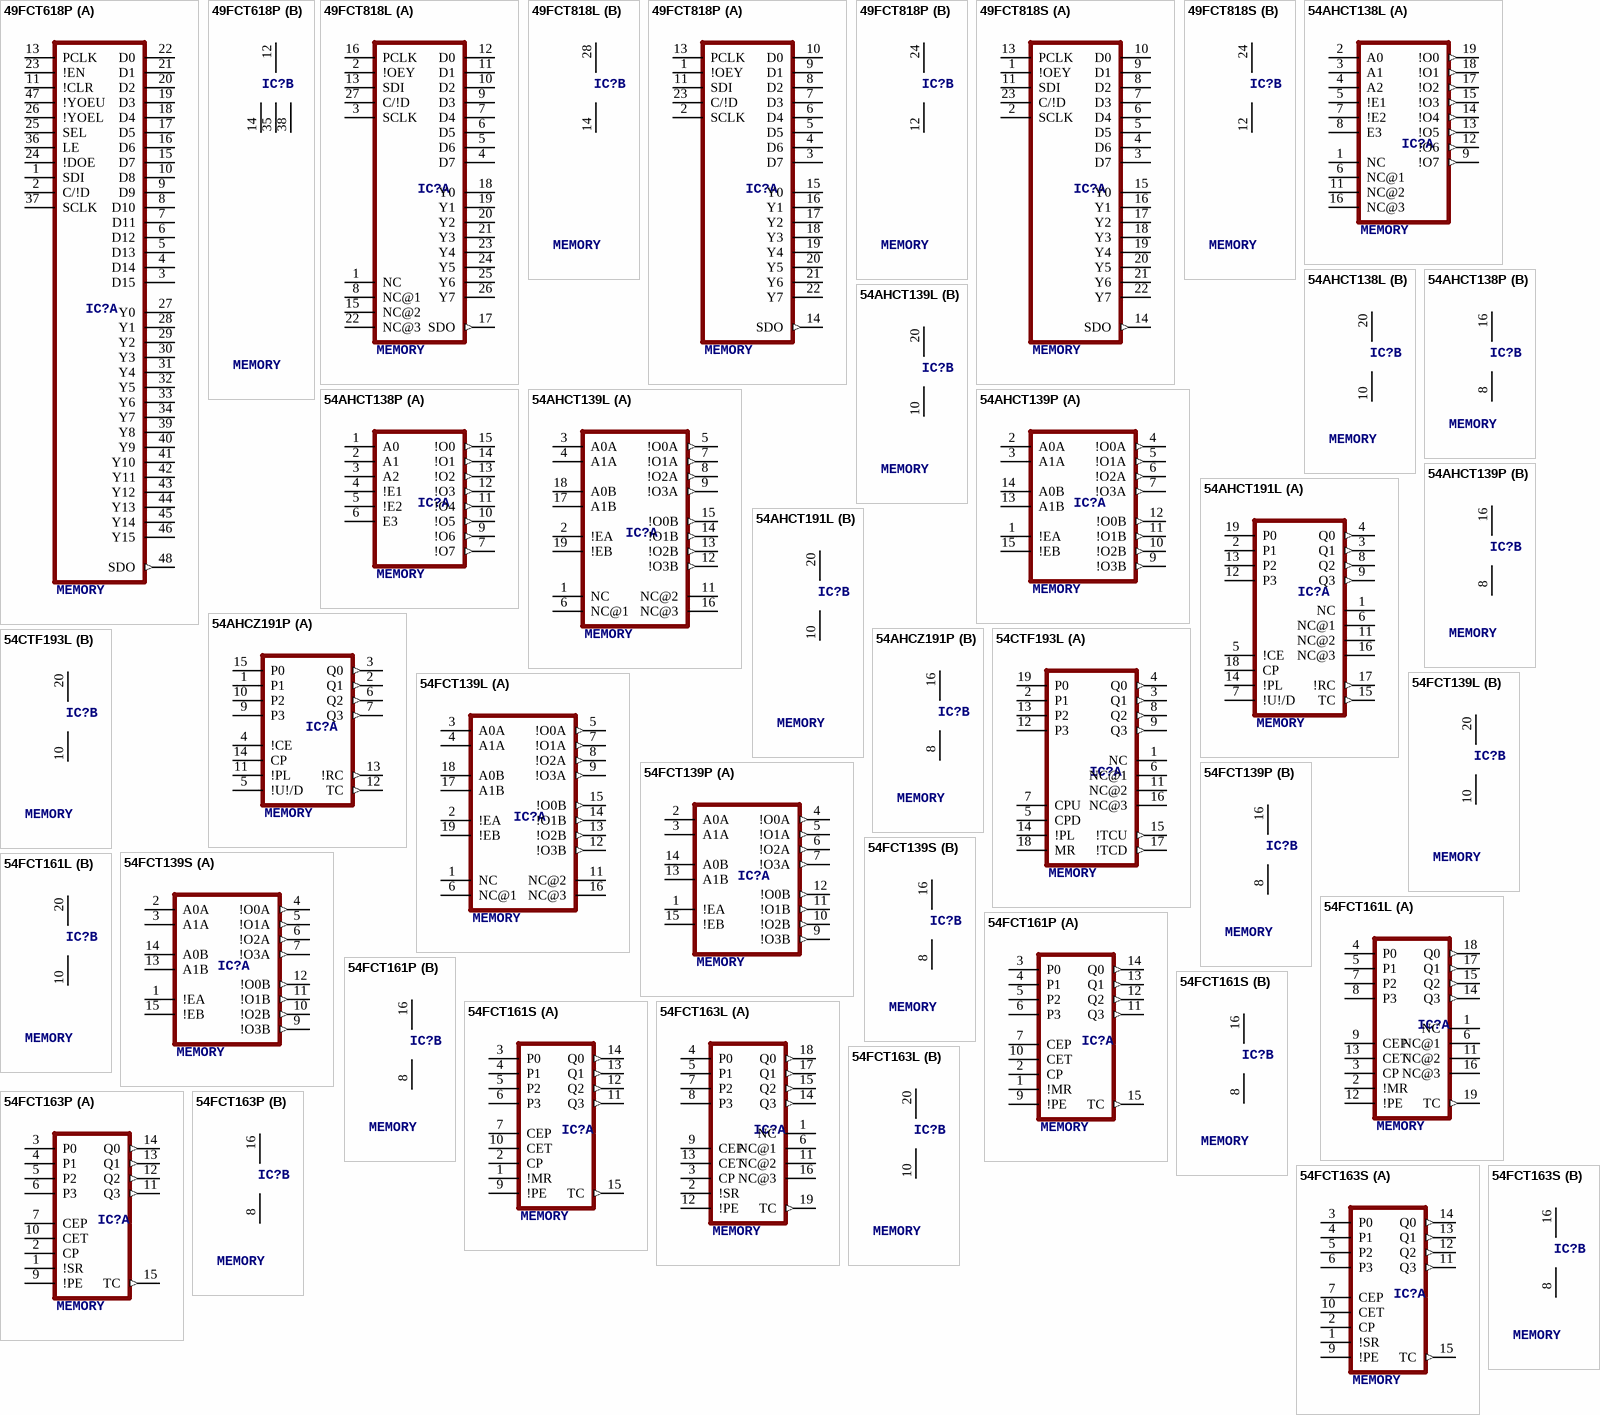
[diagram p4: symbols 49FCT618P to 54FCT163S]

## 49FCT618P
designator IC?, comment MEMORY
OC_FARNELL: unknown; OC_NEWARK: unknown
footprint DIL48
part A pins: 1 SDI, 2 C/!D, 3 D15, 4 D14, 5 D13, 6 D12, 7 D11, 8 D10, 9 D9, 10 D8, 11 !CLR, 13 PCLK, 15 D7, 16 D6, 17 D5, 18 D4, 19 D3, 20 D2, 21 D1, 22 D0, 23 !EN, 24 !DOE, 25 SEL, 26 !YOEL, 27 Y0, 28 Y1, 29 Y2, 30 Y3, 31 Y4, 32 Y5, 33 Y6, 34 Y7, 36 LE, 37 SCLK, 39 Y8, 40 Y9, 41 Y10, 42 Y11, 43 Y12, 44 Y13, 45 Y14, 46 Y15, 47 !YOEU, 48 SDO (out)
part B pins: 12 VCC (power), 14 GND (power), 35 GND@1 (power), 38 GND@2 (power)

## 49FCT818L
designator IC?, comment MEMORY
OC_FARNELL: unknown; OC_NEWARK: unknown
footprint L28-1
part A pins: 1 NC, 2 !OEY, 3 SCLK, 4 D7, 5 D6, 6 D5, 7 D4, 8 NC@1, 9 D3, 10 D2, 11 D1, 12 D0, 13 SDI, 15 NC@2, 16 PCLK, 17 SDO (out), 18 Y0, 19 Y1, 20 Y2, 21 Y3, 22 NC@3, 23 Y4, 24 Y5, 25 Y6, 26 Y7, 27 C/!D
part B pins: 14 GND (power), 28 VCC (power)

## 49FCT818P
designator IC?, comment MEMORY
OC_FARNELL: unknown; OC_NEWARK: unknown
footprint DIL24-6
part A pins: 1 !OEY, 2 SCLK, 3 D7, 4 D6, 5 D5, 6 D4, 7 D3, 8 D2, 9 D1, 10 D0, 11 SDI, 13 PCLK, 14 SDO (out), 15 Y0, 16 Y1, 17 Y2, 18 Y3, 19 Y4, 20 Y5, 21 Y6, 22 Y7, 23 C/!D
part B pins: 12 GND (power), 24 VCC (power)

## 49FCT818S
designator IC?, comment MEMORY
OC_FARNELL: unknown; OC_NEWARK: unknown
footprint SO24-2
part A pins: 1 !OEY, 2 SCLK, 3 D7, 4 D6, 5 D5, 6 D4, 7 D3, 8 D2, 9 D1, 10 D0, 11 SDI, 13 PCLK, 14 SDO (out), 15 Y0, 16 Y1, 17 Y2, 18 Y3, 19 Y4, 20 Y5, 21 Y6, 22 Y7, 23 C/!D
part B pins: 12 GND (power), 24 VCC (power)

## 54AHCT138L
designator IC?, comment MEMORY
OC_FARNELL: unknown; OC_NEWARK: unknown
footprint L20-2
part A pins: 1 NC, 2 A0, 3 A1, 4 A2, 5 !E1, 6 NC@1, 7 !E2, 8 E3, 9 !O7 (out), 11 NC@2, 12 !O6 (out), 13 !O5 (out), 14 !O4 (out), 15 !O3 (out), 16 NC@3, 17 !O2 (out), 18 !O1 (out), 19 !O0 (out)
part B pins: 10 GND (power), 20 VCC (power)

## 54AHCT138P
designator IC?, comment MEMORY
OC_FARNELL: unknown; OC_NEWARK: unknown
footprint DIL16
part A pins: 1 A0, 2 A1, 3 A2, 4 !E1, 5 !E2, 6 E3, 7 !O7 (out), 9 !O6 (out), 10 !O5 (out), 11 !O4 (out), 12 !O3 (out), 13 !O2 (out), 14 !O1 (out), 15 !O0 (out)
part B pins: 8 GND (power), 16 VCC (power)

## 54AHCT139L
designator IC?, comment MEMORY
OC_FARNELL: unknown; OC_NEWARK: unknown
footprint L20-2
part A pins: 1 NC, 2 !EA, 3 A0A, 4 A1A, 5 !O0A (out), 6 NC@1, 7 !O1A (out), 8 !O2A (out), 9 !O3A (out), 11 NC@2, 12 !O3B (out), 13 !O2B (out), 14 !O1B (out), 15 !O0B (out), 16 NC@3, 17 A1B, 18 A0B, 19 !EB
part B pins: 10 GND (power), 20 VCC (power)

## 54AHCT139P
designator IC?, comment MEMORY
OC_FARNELL: unknown; OC_NEWARK: unknown
footprint DIL16
part A pins: 1 !EA, 2 A0A, 3 A1A, 4 !O0A (out), 5 !O1A (out), 6 !O2A (out), 7 !O3A (out), 9 !O3B (out), 10 !O2B (out), 11 !O1B (out), 12 !O0B (out), 13 A1B, 14 A0B, 15 !EB
part B pins: 8 GND (power), 16 VCC (power)

## 54AHCT191L
designator IC?, comment MEMORY
OC_FARNELL: unknown; OC_NEWARK: unknown
footprint L20-2
part A pins: 1 NC, 2 P1, 3 Q1 (out), 4 Q0 (out), 5 !CE, 6 NC@1, 7 !U!/D, 8 Q2 (out), 9 Q3 (out), 11 NC@2, 12 P3, 13 P2, 14 !PL, 15 TC (out), 16 NC@3, 17 !RC (out), 18 CP, 19 P0
part B pins: 10 GND (power), 20 VCC (power)

## 54AHCZ191P
designator IC?, comment MEMORY
OC_FARNELL: unknown; OC_NEWARK: unknown
footprint DIL16
part A pins: 1 P1, 2 Q1 (out), 3 Q0 (out), 4 !CE, 5 !U!/D, 6 Q2 (out), 7 Q3 (out), 9 P3, 10 P2, 11 !PL, 12 TC (out), 13 !RC (out), 14 CP, 15 P0
part B pins: 8 GND (power), 16 VCC (power)

## 54CTF193L
designator IC?, comment MEMORY
OC_FARNELL: unknown; OC_NEWARK: unknown
footprint L20-2
part A pins: 1 NC, 2 P1, 3 Q1 (out), 4 Q0 (out), 5 CPD, 6 NC@1, 7 CPU, 8 Q2 (out), 9 Q3 (out), 11 NC@2, 12 P3, 13 P2, 14 !PL, 15 !TCU (out), 16 NC@3, 17 !TCD (out), 18 MR, 19 P0
part B pins: 10 GND (power), 20 VCC (power)

## 54FCT139L
designator IC?, comment MEMORY
OC_FARNELL: unknown; OC_NEWARK: unknown
footprint L20-2
part A pins: 1 NC, 2 !EA, 3 A0A, 4 A1A, 5 !O0A (out), 6 NC@1, 7 !O1A (out), 8 !O2A (out), 9 !O3A (out), 11 NC@2, 12 !O3B (out), 13 !O2B (out), 14 !O1B (out), 15 !O0B (out), 16 NC@3, 17 A1B, 18 A0B, 19 !EB
part B pins: 10 GND (power), 20 VCC (power)

## 54FCT139P
designator IC?, comment MEMORY
OC_FARNELL: unknown; OC_NEWARK: unknown
footprint DIL16
part A pins: 1 !EA, 2 A0A, 3 A1A, 4 !O0A (out), 5 !O1A (out), 6 !O2A (out), 7 !O3A (out), 9 !O3B (out), 10 !O2B (out), 11 !O1B (out), 12 !O0B (out), 13 A1B, 14 A0B, 15 !EB
part B pins: 8 GND (power), 16 VCC (power)

## 54FCT139S
designator IC?, comment MEMORY
OC_FARNELL: unknown; OC_NEWARK: unknown
footprint SO16-1
part A pins: 1 !EA, 2 A0A, 3 A1A, 4 !O0A (out), 5 !O1A (out), 6 !O2A (out), 7 !O3A (out), 9 !O3B (out), 10 !O2B (out), 11 !O1B (out), 12 !O0B (out), 13 A1B, 14 A0B, 15 !EB
part B pins: 8 GND (power), 16 VCC (power)

## 54FCT161L
designator IC?, comment MEMORY
OC_FARNELL: unknown; OC_NEWARK: unknown
footprint L20-2
part A pins: 1 NC, 2 !MR, 3 CP, 4 P0, 5 P1, 6 NC@1, 7 P2, 8 P3, 9 CEP, 11 NC@2, 12 !PE, 13 CET, 14 Q3 (out), 15 Q2 (out), 16 NC@3, 17 Q1 (out), 18 Q0 (out), 19 TC (out)
part B pins: 10 GND (power), 20 VCC (power)

## 54FCT161P
designator IC?, comment MEMORY
OC_FARNELL: unknown; OC_NEWARK: unknown
footprint DIL16
part A pins: 1 !MR, 2 CP, 3 P0, 4 P1, 5 P2, 6 P3, 7 CEP, 9 !PE, 10 CET, 11 Q3 (out), 12 Q2 (out), 13 Q1 (out), 14 Q0 (out), 15 TC (out)
part B pins: 8 GND (power), 16 VCC (power)

## 54FCT161S
designator IC?, comment MEMORY
OC_FARNELL: unknown; OC_NEWARK: unknown
footprint SO16-1
part A pins: 1 !MR, 2 CP, 3 P0, 4 P1, 5 P2, 6 P3, 7 CEP, 9 !PE, 10 CET, 11 Q3 (out), 12 Q2 (out), 13 Q1 (out), 14 Q0 (out), 15 TC (out)
part B pins: 8 GND (power), 16 VCC (power)

## 54FCT163L
designator IC?, comment MEMORY
OC_FARNELL: unknown; OC_NEWARK: unknown
footprint L20-2
part A pins: 1 NC, 2 !SR, 3 CP, 4 P0, 5 P1, 6 NC@1, 7 P2, 8 P3, 9 CEP, 11 NC@2, 12 !PE, 13 CET, 14 Q3 (out), 15 Q2 (out), 16 NC@3, 17 Q1 (out), 18 Q0 (out), 19 TC (out)
part B pins: 10 GND (power), 20 VCC (power)

## 54FCT163P
designator IC?, comment MEMORY
OC_FARNELL: unknown; OC_NEWARK: unknown
footprint DIL16
part A pins: 1 !SR, 2 CP, 3 P0, 4 P1, 5 P2, 6 P3, 7 CEP, 9 !PE, 10 CET, 11 Q3 (out), 12 Q2 (out), 13 Q1 (out), 14 Q0 (out), 15 TC (out)
part B pins: 8 GND (power), 16 VCC (power)

## 54FCT163S
designator IC?, comment MEMORY
OC_FARNELL: unknown; OC_NEWARK: unknown
footprint SO16-1
part A pins: 1 !SR, 2 CP, 3 P0, 4 P1, 5 P2, 6 P3, 7 CEP, 9 !PE, 10 CET, 11 Q3 (out), 12 Q2 (out), 13 Q1 (out), 14 Q0 (out), 15 TC (out)
part B pins: 8 GND (power), 16 VCC (power)

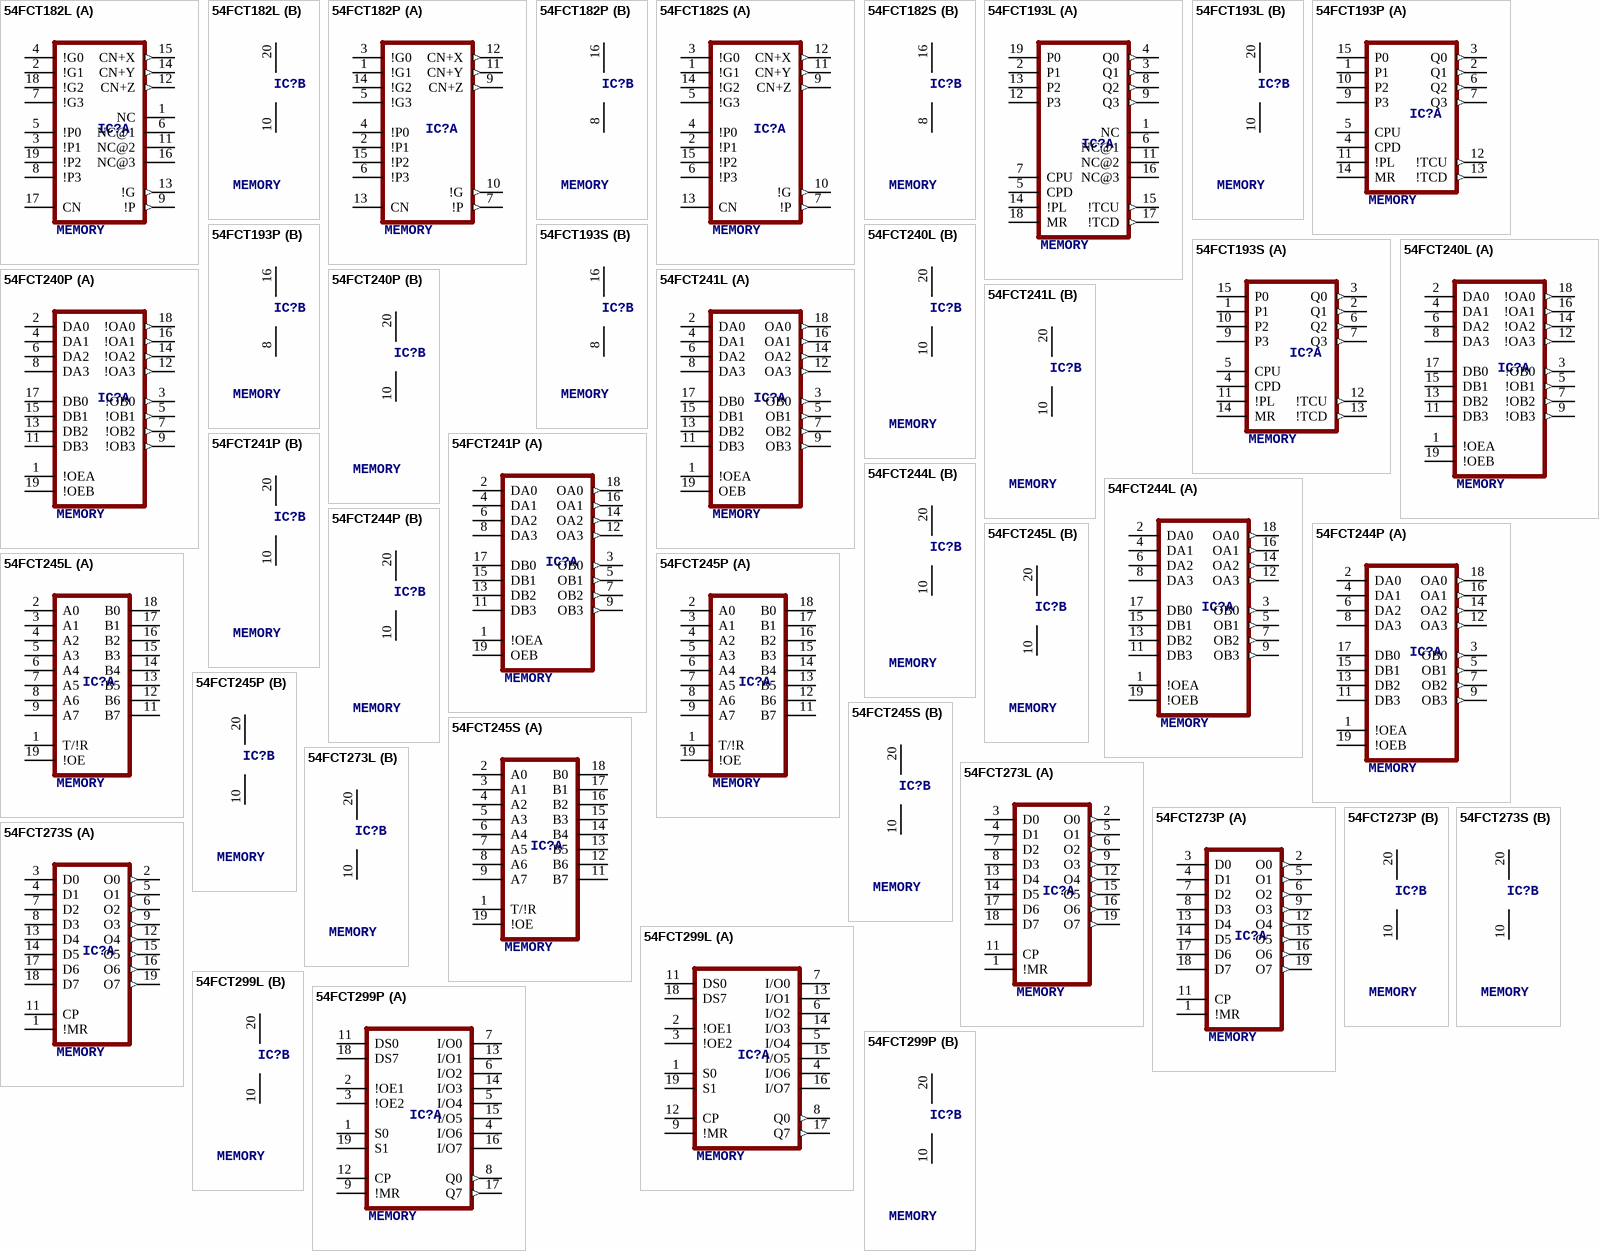
[diagram p5: symbols 54FCT182L to 54FCT299P]

## 54FCT182L
designator IC?, comment MEMORY
OC_FARNELL: unknown; OC_NEWARK: unknown
footprint L20-2
part A pins: 1 NC, 2 !G1, 3 !P1, 4 !G0, 5 !P0, 6 NC@1, 7 !G3, 8 !P3, 9 !P (out), 11 NC@2, 12 CN+Z (out), 13 !G (out), 14 CN+Y (out), 15 CN+X (out), 16 NC@3, 17 CN, 18 !G2, 19 !P2
part B pins: 10 GND (power), 20 VCC (power)

## 54FCT182P
designator IC?, comment MEMORY
OC_FARNELL: unknown; OC_NEWARK: unknown
footprint DIL16
part A pins: 1 !G1, 2 !P1, 3 !G0, 4 !P0, 5 !G3, 6 !P3, 7 !P (out), 9 CN+Z (out), 10 !G (out), 11 CN+Y (out), 12 CN+X (out), 13 CN, 14 !G2, 15 !P2
part B pins: 8 GND (power), 16 VCC (power)

## 54FCT182S
designator IC?, comment MEMORY
OC_FARNELL: unknown; OC_NEWARK: unknown
footprint SO16-1
part A pins: 1 !G1, 2 !P1, 3 !G0, 4 !P0, 5 !G3, 6 !P3, 7 !P (out), 9 CN+Z (out), 10 !G (out), 11 CN+Y (out), 12 CN+X (out), 13 CN, 14 !G2, 15 !P2
part B pins: 8 GND (power), 16 VCC (power)

## 54FCT193L
designator IC?, comment MEMORY
OC_FARNELL: unknown; OC_NEWARK: unknown
footprint L20-2
part A pins: 1 NC, 2 P1, 3 Q1 (out), 4 Q0 (out), 5 CPD, 6 NC@1, 7 CPU, 8 Q2 (out), 9 Q3 (out), 11 NC@2, 12 P3, 13 P2, 14 !PL, 15 !TCU (out), 16 NC@3, 17 !TCD (out), 18 MR, 19 P0
part B pins: 10 GND (power), 20 VCC (power)

## 54FCT193P
designator IC?, comment MEMORY
OC_FARNELL: unknown; OC_NEWARK: unknown
footprint DIL16
part A pins: 1 P1, 2 Q1 (out), 3 Q0 (out), 4 CPD, 5 CPU, 6 Q2 (out), 7 Q3 (out), 9 P3, 10 P2, 11 !PL, 12 !TCU (out), 13 !TCD (out), 14 MR, 15 P0
part B pins: 8 GND (power), 16 VCC (power)

## 54FCT193S
designator IC?, comment MEMORY
OC_FARNELL: unknown; OC_NEWARK: unknown
footprint SO16-1
part A pins: 1 P1, 2 Q1 (out), 3 Q0 (out), 4 CPD, 5 CPU, 6 Q2 (out), 7 Q3 (out), 9 P3, 10 P2, 11 !PL, 12 !TCU (out), 13 !TCD (out), 14 MR, 15 P0
part B pins: 8 GND (power), 16 VCC (power)

## 54FCT240L
designator IC?, comment MEMORY
OC_FARNELL: unknown; OC_NEWARK: unknown
footprint L20-2
part A pins: 1 !OEA, 2 DA0, 3 !OB0 (out), 4 DA1, 5 !OB1 (out), 6 DA2, 7 !OB2 (out), 8 DA3, 9 !OB3 (out), 11 DB3, 12 !OA3 (out), 13 DB2, 14 !OA2 (out), 15 DB1, 16 !OA1 (out), 17 DB0, 18 !OA0 (out), 19 !OEB
part B pins: 10 GND (power), 20 VCC (power)

## 54FCT240P
designator IC?, comment MEMORY
OC_FARNELL: unknown; OC_NEWARK: unknown
footprint DIL20
part A pins: 1 !OEA, 2 DA0, 3 !OB0 (out), 4 DA1, 5 !OB1 (out), 6 DA2, 7 !OB2 (out), 8 DA3, 9 !OB3 (out), 11 DB3, 12 !OA3 (out), 13 DB2, 14 !OA2 (out), 15 DB1, 16 !OA1 (out), 17 DB0, 18 !OA0 (out), 19 !OEB
part B pins: 10 GND (power), 20 VCC (power)

## 54FCT241L
designator IC?, comment MEMORY
OC_FARNELL: unknown; OC_NEWARK: unknown
footprint L20-2
part A pins: 1 !OEA, 2 DA0, 3 OB0 (out), 4 DA1, 5 OB1 (out), 6 DA2, 7 OB2 (out), 8 DA3, 9 OB3 (out), 11 DB3, 12 OA3 (out), 13 DB2, 14 OA2 (out), 15 DB1, 16 OA1 (out), 17 DB0, 18 OA0 (out), 19 OEB
part B pins: 10 GND (power), 20 VCC (power)

## 54FCT241P
designator IC?, comment MEMORY
OC_FARNELL: unknown; OC_NEWARK: unknown
footprint DIL20
part A pins: 1 !OEA, 2 DA0, 3 OB0 (out), 4 DA1, 5 OB1 (out), 6 DA2, 7 OB2 (out), 8 DA3, 9 OB3 (out), 11 DB3, 12 OA3 (out), 13 DB2, 14 OA2 (out), 15 DB1, 16 OA1 (out), 17 DB0, 18 OA0 (out), 19 OEB
part B pins: 10 GND (power), 20 VCC (power)

## 54FCT244L
designator IC?, comment MEMORY
OC_FARNELL: unknown; OC_NEWARK: unknown
footprint L20-2
part A pins: 1 !OEA, 2 DA0, 3 OB0 (out), 4 DA1, 5 OB1 (out), 6 DA2, 7 OB2 (out), 8 DA3, 9 OB3 (out), 11 DB3, 12 OA3 (out), 13 DB2, 14 OA2 (out), 15 DB1, 16 OA1 (out), 17 DB0, 18 OA0 (out), 19 !OEB
part B pins: 10 GND (power), 20 VCC (power)

## 54FCT244P
designator IC?, comment MEMORY
MPN: CY54FCT244TDMB; OC_FARNELL: unknown; OC_NEWARK: 26R3270
footprint DIL20
part A pins: 1 !OEA, 2 DA0, 3 OB0 (out), 4 DA1, 5 OB1 (out), 6 DA2, 7 OB2 (out), 8 DA3, 9 OB3 (out), 11 DB3, 12 OA3 (out), 13 DB2, 14 OA2 (out), 15 DB1, 16 OA1 (out), 17 DB0, 18 OA0 (out), 19 !OEB
part B pins: 10 GND (power), 20 VCC (power)

## 54FCT245L
designator IC?, comment MEMORY
OC_FARNELL: unknown; OC_NEWARK: unknown
footprint L20-2
part A pins: 1 T/!R, 2 A0, 3 A1, 4 A2, 5 A3, 6 A4, 7 A5, 8 A6, 9 A7, 11 B7, 12 B6, 13 B5, 14 B4, 15 B3, 16 B2, 17 B1, 18 B0, 19 !OE
part B pins: 10 GND (power), 20 VCC (power)

## 54FCT245P
designator IC?, comment MEMORY
OC_FARNELL: unknown; OC_NEWARK: unknown
footprint DIL20
part A pins: 1 T/!R, 2 A0, 3 A1, 4 A2, 5 A3, 6 A4, 7 A5, 8 A6, 9 A7, 11 B7, 12 B6, 13 B5, 14 B4, 15 B3, 16 B2, 17 B1, 18 B0, 19 !OE
part B pins: 10 GND (power), 20 VCC (power)

## 54FCT245S
designator IC?, comment MEMORY
OC_FARNELL: unknown; OC_NEWARK: unknown
footprint SO20-2
part A pins: 1 T/!R, 2 A0, 3 A1, 4 A2, 5 A3, 6 A4, 7 A5, 8 A6, 9 A7, 11 B7, 12 B6, 13 B5, 14 B4, 15 B3, 16 B2, 17 B1, 18 B0, 19 !OE
part B pins: 10 GND (power), 20 VCC (power)

## 54FCT273L
designator IC?, comment MEMORY
OC_FARNELL: unknown; OC_NEWARK: unknown
footprint L20-2
part A pins: 1 !MR, 2 O0 (out), 3 D0, 4 D1, 5 O1 (out), 6 O2 (out), 7 D2, 8 D3, 9 O3 (out), 11 CP, 12 O4 (out), 13 D4, 14 D5, 15 O5 (out), 16 O6 (out), 17 D6, 18 D7, 19 O7 (out)
part B pins: 10 GND (power), 20 VCC (power)

## 54FCT273P
designator IC?, comment MEMORY
OC_FARNELL: unknown; OC_NEWARK: unknown
footprint DIL20
part A pins: 1 !MR, 2 O0 (out), 3 D0, 4 D1, 5 O1 (out), 6 O2 (out), 7 D2, 8 D3, 9 O3 (out), 11 CP, 12 O4 (out), 13 D4, 14 D5, 15 O5 (out), 16 O6 (out), 17 D6, 18 D7, 19 O7 (out)
part B pins: 10 GND (power), 20 VCC (power)

## 54FCT273S
designator IC?, comment MEMORY
OC_FARNELL: unknown; OC_NEWARK: unknown
footprint SO20-2
part A pins: 1 !MR, 2 O0 (out), 3 D0, 4 D1, 5 O1 (out), 6 O2 (out), 7 D2, 8 D3, 9 O3 (out), 11 CP, 12 O4 (out), 13 D4, 14 D5, 15 O5 (out), 16 O6 (out), 17 D6, 18 D7, 19 O7 (out)
part B pins: 10 GND (power), 20 VCC (power)

## 54FCT299L
designator IC?, comment MEMORY
OC_FARNELL: unknown; OC_NEWARK: unknown
footprint L20-2
part A pins: 1 S0, 2 !OE1, 3 !OE2, 4 I/O6, 5 I/O4, 6 I/O2, 7 I/O0, 8 Q0 (out), 9 !MR, 11 DS0, 12 CP, 13 I/O1, 14 I/O3, 15 I/O5, 16 I/O7, 17 Q7 (out), 18 DS7, 19 S1
part B pins: 10 GND (power), 20 VCC (power)

## 54FCT299P
designator IC?, comment MEMORY
OC_FARNELL: unknown; OC_NEWARK: unknown
footprint DIL20
part A pins: 1 S0, 2 !OE1, 3 !OE2, 4 I/O6, 5 I/O4, 6 I/O2, 7 I/O0, 8 Q0 (out), 9 !MR, 11 DS0, 12 CP, 13 I/O1, 14 I/O3, 15 I/O5, 16 I/O7, 17 Q7 (out), 18 DS7, 19 S1
part B pins: 10 GND (power), 20 VCC (power)

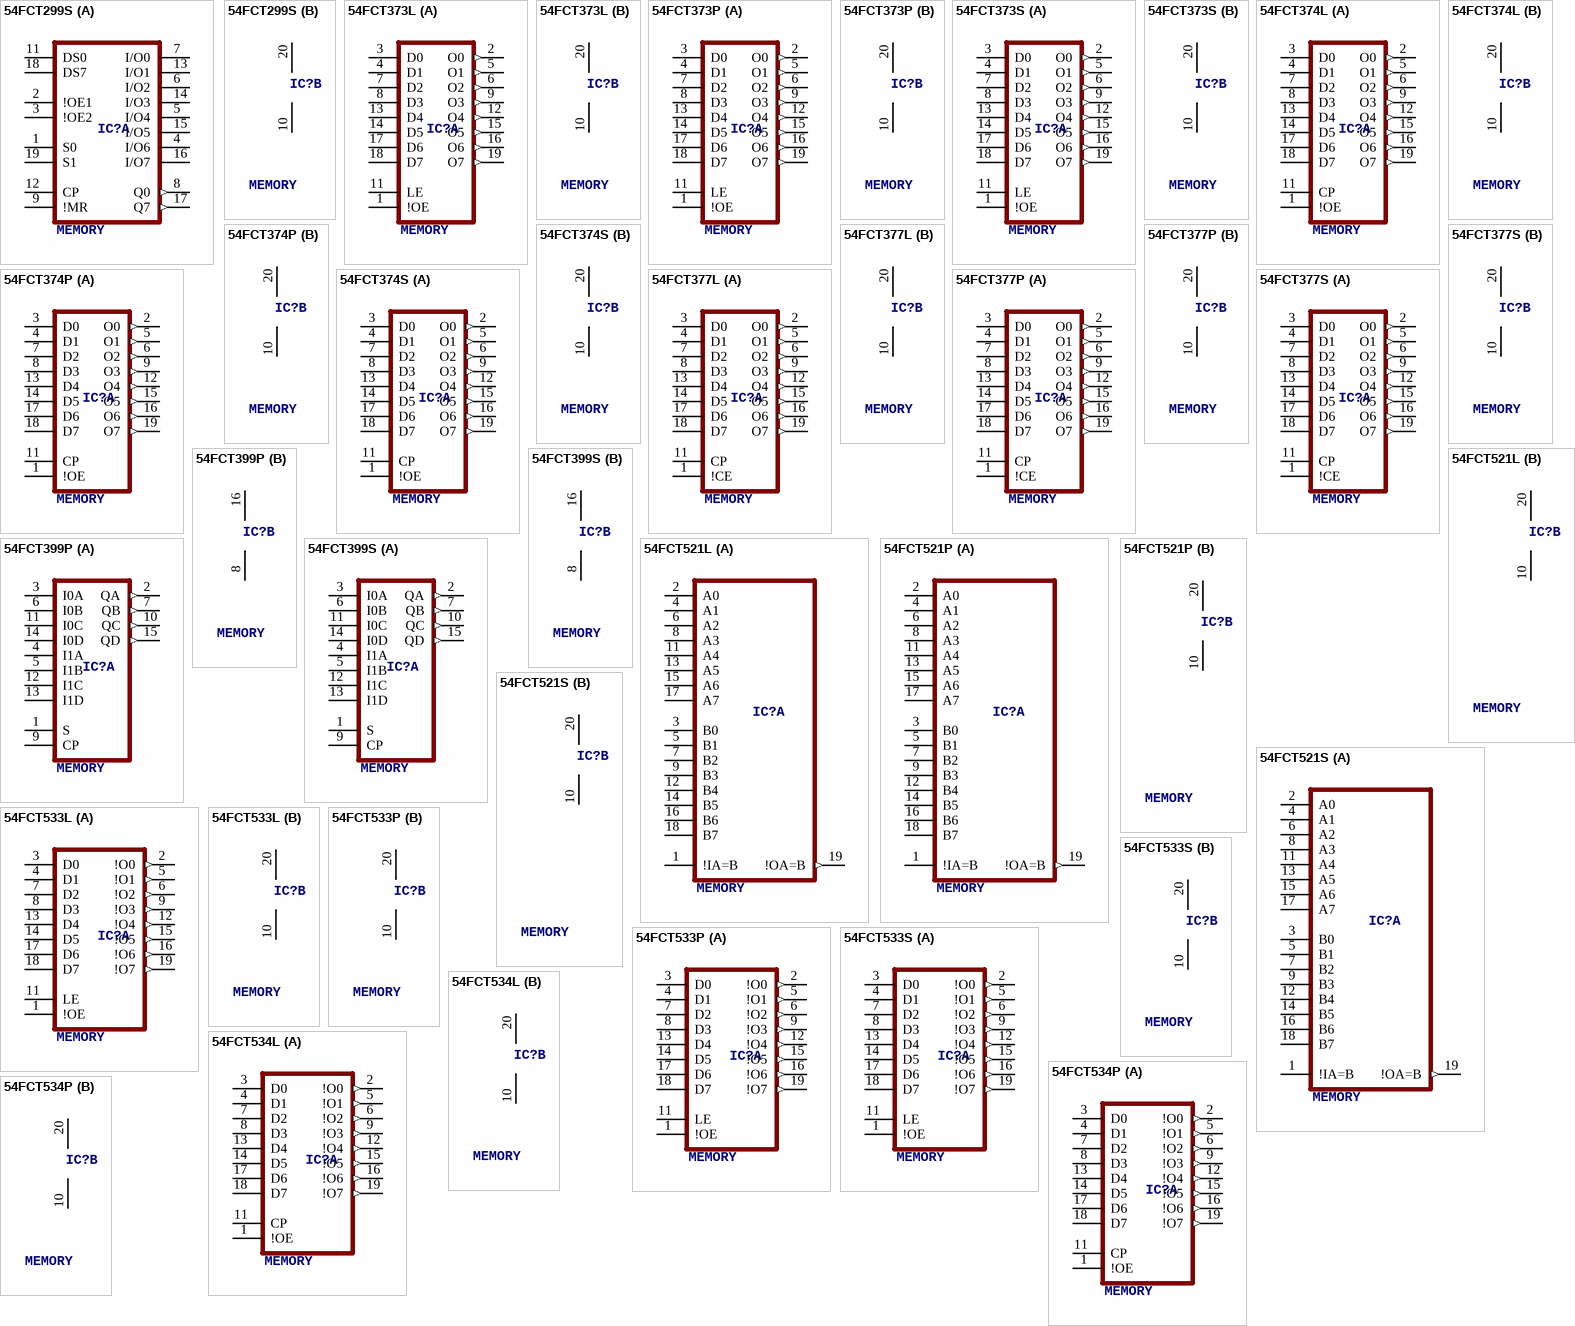
[diagram p6: symbols 54FCT299S to 54FCT534P]

## 54FCT299S
designator IC?, comment MEMORY
OC_FARNELL: unknown; OC_NEWARK: unknown
footprint SO20-2
part A pins: 1 S0, 2 !OE1, 3 !OE2, 4 I/O6, 5 I/O4, 6 I/O2, 7 I/O0, 8 Q0 (out), 9 !MR, 11 DS0, 12 CP, 13 I/O1, 14 I/O3, 15 I/O5, 16 I/O7, 17 Q7 (out), 18 DS7, 19 S1
part B pins: 10 GND (power), 20 VCC (power)

## 54FCT373L
designator IC?, comment MEMORY
OC_FARNELL: unknown; OC_NEWARK: unknown
footprint L20-2
part A pins: 1 !OE, 2 O0 (out), 3 D0, 4 D1, 5 O1 (out), 6 O2 (out), 7 D2, 8 D3, 9 O3 (out), 11 LE, 12 O4 (out), 13 D4, 14 D5, 15 O5 (out), 16 O6 (out), 17 D6, 18 D7, 19 O7 (out)
part B pins: 10 GND (power), 20 VCC (power)

## 54FCT373P
designator IC?, comment MEMORY
OC_FARNELL: unknown; OC_NEWARK: unknown
footprint DIL20
part A pins: 1 !OE, 2 O0 (out), 3 D0, 4 D1, 5 O1 (out), 6 O2 (out), 7 D2, 8 D3, 9 O3 (out), 11 LE, 12 O4 (out), 13 D4, 14 D5, 15 O5 (out), 16 O6 (out), 17 D6, 18 D7, 19 O7 (out)
part B pins: 10 GND (power), 20 VCC (power)

## 54FCT373S
designator IC?, comment MEMORY
OC_FARNELL: unknown; OC_NEWARK: unknown
footprint SO20-2
part A pins: 1 !OE, 2 O0 (out), 3 D0, 4 D1, 5 O1 (out), 6 O2 (out), 7 D2, 8 D3, 9 O3 (out), 11 LE, 12 O4 (out), 13 D4, 14 D5, 15 O5 (out), 16 O6 (out), 17 D6, 18 D7, 19 O7 (out)
part B pins: 10 GND (power), 20 VCC (power)

## 54FCT374L
designator IC?, comment MEMORY
OC_FARNELL: unknown; OC_NEWARK: unknown
footprint L20-2
part A pins: 1 !OE, 2 O0 (out), 3 D0, 4 D1, 5 O1 (out), 6 O2 (out), 7 D2, 8 D3, 9 O3 (out), 11 CP, 12 O4 (out), 13 D4, 14 D5, 15 O5 (out), 16 O6 (out), 17 D6, 18 D7, 19 O7 (out)
part B pins: 10 GND (power), 20 VCC (power)

## 54FCT374P
designator IC?, comment MEMORY
OC_FARNELL: unknown; OC_NEWARK: unknown
footprint DIL20
part A pins: 1 !OE, 2 O0 (out), 3 D0, 4 D1, 5 O1 (out), 6 O2 (out), 7 D2, 8 D3, 9 O3 (out), 11 CP, 12 O4 (out), 13 D4, 14 D5, 15 O5 (out), 16 O6 (out), 17 D6, 18 D7, 19 O7 (out)
part B pins: 10 GND (power), 20 VCC (power)

## 54FCT374S
designator IC?, comment MEMORY
OC_FARNELL: unknown; OC_NEWARK: unknown
footprint SO20-2
part A pins: 1 !OE, 2 O0 (out), 3 D0, 4 D1, 5 O1 (out), 6 O2 (out), 7 D2, 8 D3, 9 O3 (out), 11 CP, 12 O4 (out), 13 D4, 14 D5, 15 O5 (out), 16 O6 (out), 17 D6, 18 D7, 19 O7 (out)
part B pins: 10 GND (power), 20 VCC (power)

## 54FCT377L
designator IC?, comment MEMORY
OC_FARNELL: unknown; OC_NEWARK: unknown
footprint L20-2
part A pins: 1 !CE, 2 O0 (out), 3 D0, 4 D1, 5 O1 (out), 6 O2 (out), 7 D2, 8 D3, 9 O3 (out), 11 CP, 12 O4 (out), 13 D4, 14 D5, 15 O5 (out), 16 O6 (out), 17 D6, 18 D7, 19 O7 (out)
part B pins: 10 GND (power), 20 VCC (power)

## 54FCT377P
designator IC?, comment MEMORY
OC_FARNELL: unknown; OC_NEWARK: unknown
footprint DIL20
part A pins: 1 !CE, 2 O0 (out), 3 D0, 4 D1, 5 O1 (out), 6 O2 (out), 7 D2, 8 D3, 9 O3 (out), 11 CP, 12 O4 (out), 13 D4, 14 D5, 15 O5 (out), 16 O6 (out), 17 D6, 18 D7, 19 O7 (out)
part B pins: 10 GND (power), 20 VCC (power)

## 54FCT377S
designator IC?, comment MEMORY
OC_FARNELL: unknown; OC_NEWARK: unknown
footprint SO20-2
part A pins: 1 !CE, 2 O0 (out), 3 D0, 4 D1, 5 O1 (out), 6 O2 (out), 7 D2, 8 D3, 9 O3 (out), 11 CP, 12 O4 (out), 13 D4, 14 D5, 15 O5 (out), 16 O6 (out), 17 D6, 18 D7, 19 O7 (out)
part B pins: 10 GND (power), 20 VCC (power)

## 54FCT399P
designator IC?, comment MEMORY
OC_FARNELL: unknown; OC_NEWARK: unknown
footprint DIL16
part A pins: 1 S, 2 QA (out), 3 I0A, 4 I1A, 5 I1B, 6 I0B, 7 QB (out), 9 CP, 10 QC (out), 11 I0C, 12 I1C, 13 I1D, 14 I0D, 15 QD (out)
part B pins: 8 GND (power), 16 VCC (power)

## 54FCT399S
designator IC?, comment MEMORY
OC_FARNELL: unknown; OC_NEWARK: unknown
footprint SO16-1
part A pins: 1 S, 2 QA (out), 3 I0A, 4 I1A, 5 I1B, 6 I0B, 7 QB (out), 9 CP, 10 QC (out), 11 I0C, 12 I1C, 13 I1D, 14 I0D, 15 QD (out)
part B pins: 8 GND (power), 16 VCC (power)

## 54FCT521L
designator IC?, comment MEMORY
OC_FARNELL: unknown; OC_NEWARK: unknown
footprint L20-2
part A pins: 1 !IA=B, 2 A0, 3 B0, 4 A1, 5 B1, 6 A2, 7 B2, 8 A3, 9 B3, 11 A4, 12 B4, 13 A5, 14 B5, 15 A6, 16 B6, 17 A7, 18 B7, 19 !OA=B (out)
part B pins: 10 GND (power), 20 VCC (power)

## 54FCT521P
designator IC?, comment MEMORY
OC_FARNELL: unknown; OC_NEWARK: unknown
footprint DIL20
part A pins: 1 !IA=B, 2 A0, 3 B0, 4 A1, 5 B1, 6 A2, 7 B2, 8 A3, 9 B3, 11 A4, 12 B4, 13 A5, 14 B5, 15 A6, 16 B6, 17 A7, 18 B7, 19 !OA=B (out)
part B pins: 10 GND (power), 20 VCC (power)

## 54FCT521S
designator IC?, comment MEMORY
OC_FARNELL: unknown; OC_NEWARK: unknown
footprint SO20-2
part A pins: 1 !IA=B, 2 A0, 3 B0, 4 A1, 5 B1, 6 A2, 7 B2, 8 A3, 9 B3, 11 A4, 12 B4, 13 A5, 14 B5, 15 A6, 16 B6, 17 A7, 18 B7, 19 !OA=B (out)
part B pins: 10 GND (power), 20 VCC (power)

## 54FCT533L
designator IC?, comment MEMORY
OC_FARNELL: unknown; OC_NEWARK: unknown
footprint L20-2
part A pins: 1 !OE, 2 !O0 (out), 3 D0, 4 D1, 5 !O1 (out), 6 !O2 (out), 7 D2, 8 D3, 9 !O3 (out), 11 LE, 12 !O4 (out), 13 D4, 14 D5, 15 !O5 (out), 16 !O6 (out), 17 D6, 18 D7, 19 !O7 (out)
part B pins: 10 GND (power), 20 VCC (power)

## 54FCT533P
designator IC?, comment MEMORY
OC_FARNELL: unknown; OC_NEWARK: unknown
footprint DIL20
part A pins: 1 !OE, 2 !O0 (out), 3 D0, 4 D1, 5 !O1 (out), 6 !O2 (out), 7 D2, 8 D3, 9 !O3 (out), 11 LE, 12 !O4 (out), 13 D4, 14 D5, 15 !O5 (out), 16 !O6 (out), 17 D6, 18 D7, 19 !O7 (out)
part B pins: 10 GND (power), 20 VCC (power)

## 54FCT533S
designator IC?, comment MEMORY
OC_FARNELL: unknown; OC_NEWARK: unknown
footprint SO20-2
part A pins: 1 !OE, 2 !O0 (out), 3 D0, 4 D1, 5 !O1 (out), 6 !O2 (out), 7 D2, 8 D3, 9 !O3 (out), 11 LE, 12 !O4 (out), 13 D4, 14 D5, 15 !O5 (out), 16 !O6 (out), 17 D6, 18 D7, 19 !O7 (out)
part B pins: 10 GND (power), 20 VCC (power)

## 54FCT534L
designator IC?, comment MEMORY
OC_FARNELL: unknown; OC_NEWARK: unknown
footprint L20-2
part A pins: 1 !OE, 2 !O0 (out), 3 D0, 4 D1, 5 !O1 (out), 6 !O2 (out), 7 D2, 8 D3, 9 !O3 (out), 11 CP, 12 !O4 (out), 13 D4, 14 D5, 15 !O5 (out), 16 !O6 (out), 17 D6, 18 D7, 19 !O7 (out)
part B pins: 10 GND (power), 20 VCC (power)

## 54FCT534P
designator IC?, comment MEMORY
OC_FARNELL: unknown; OC_NEWARK: unknown
footprint DIL20
part A pins: 1 !OE, 2 !O0 (out), 3 D0, 4 D1, 5 !O1 (out), 6 !O2 (out), 7 D2, 8 D3, 9 !O3 (out), 11 CP, 12 !O4 (out), 13 D4, 14 D5, 15 !O5 (out), 16 !O6 (out), 17 D6, 18 D7, 19 !O7 (out)
part B pins: 10 GND (power), 20 VCC (power)

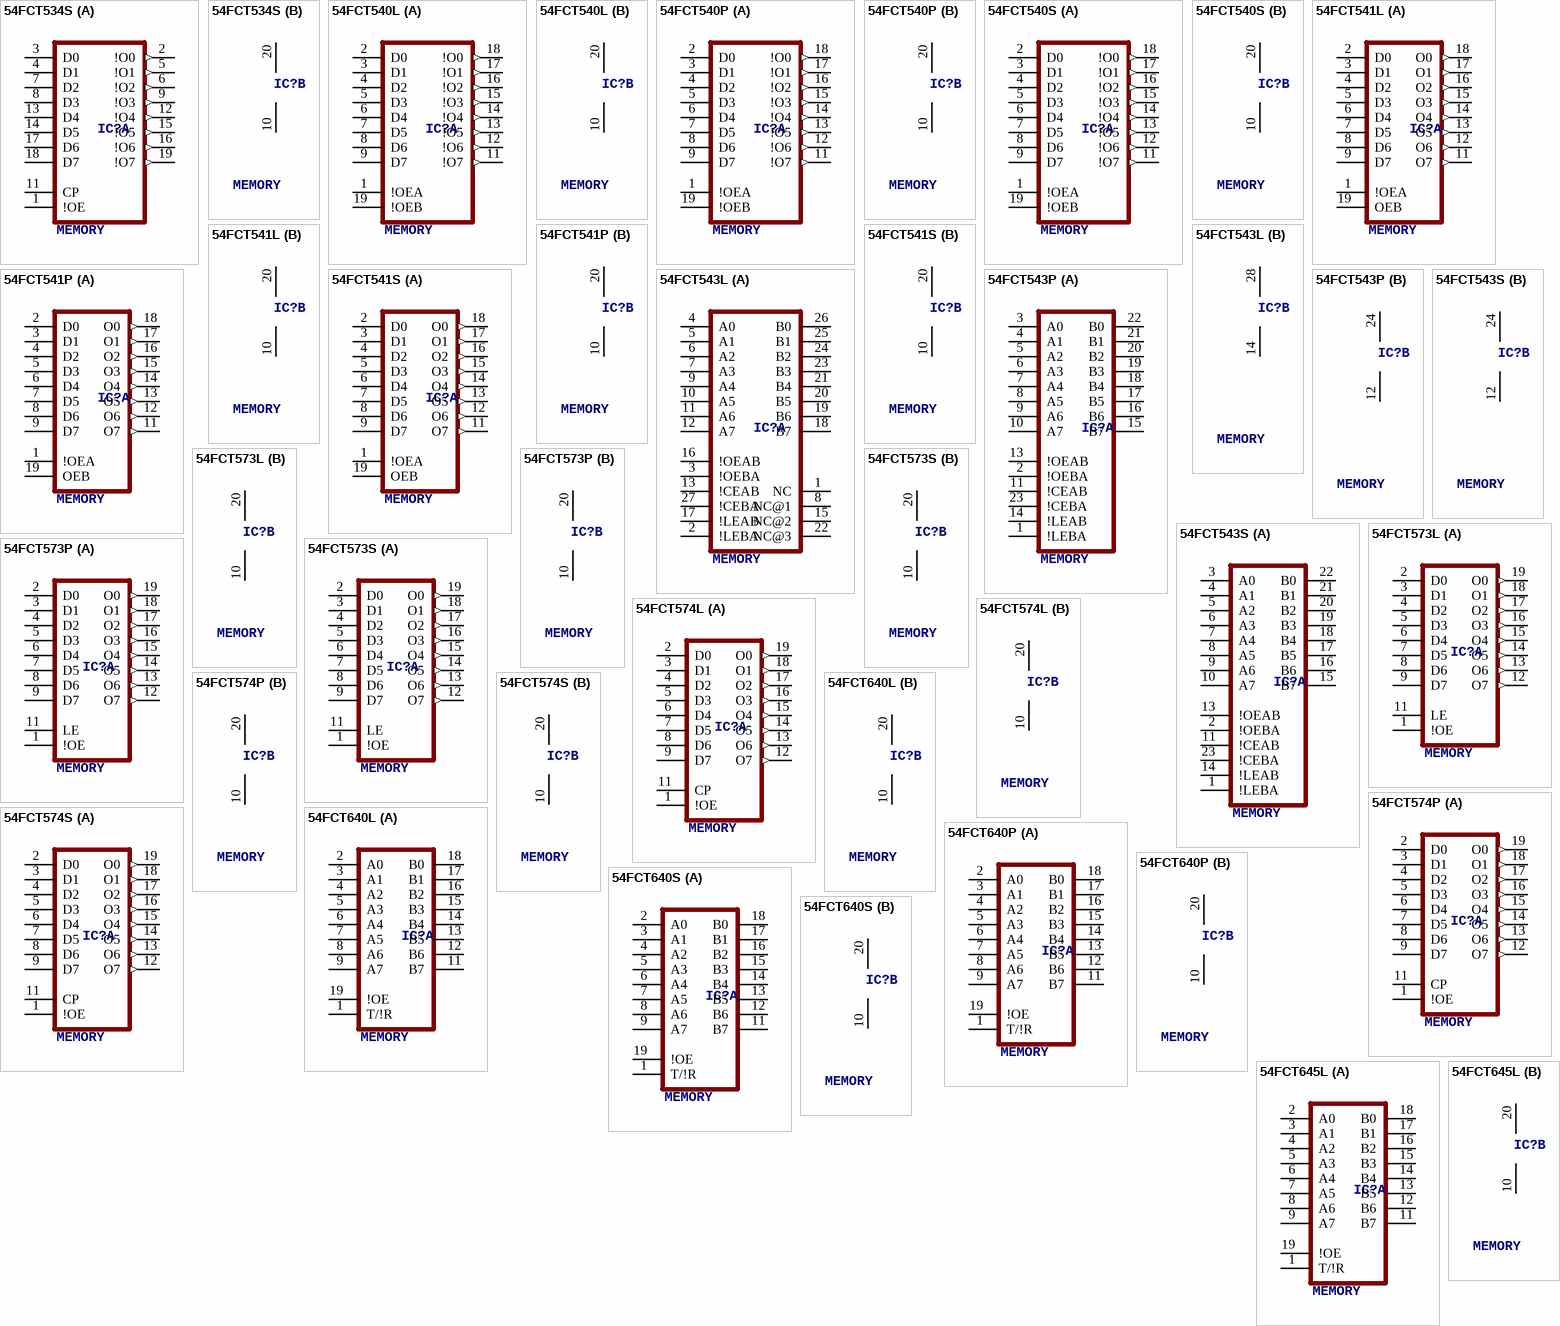
[diagram p7: symbols 54FCT534S to 54FCT645L]

## 54FCT534S
designator IC?, comment MEMORY
OC_FARNELL: unknown; OC_NEWARK: unknown
footprint SO20-2
part A pins: 1 !OE, 2 !O0 (out), 3 D0, 4 D1, 5 !O1 (out), 6 !O2 (out), 7 D2, 8 D3, 9 !O3 (out), 11 CP, 12 !O4 (out), 13 D4, 14 D5, 15 !O5 (out), 16 !O6 (out), 17 D6, 18 D7, 19 !O7 (out)
part B pins: 10 GND (power), 20 VCC (power)

## 54FCT540L
designator IC?, comment MEMORY
OC_FARNELL: unknown; OC_NEWARK: unknown
footprint L20-2
part A pins: 1 !OEA, 2 D0, 3 D1, 4 D2, 5 D3, 6 D4, 7 D5, 8 D6, 9 D7, 11 !O7 (out), 12 !O6 (out), 13 !O5 (out), 14 !O4 (out), 15 !O3 (out), 16 !O2 (out), 17 !O1 (out), 18 !O0 (out), 19 !OEB
part B pins: 10 GND (power), 20 VCC (power)

## 54FCT540P
designator IC?, comment MEMORY
OC_FARNELL: unknown; OC_NEWARK: unknown
footprint DIL20
part A pins: 1 !OEA, 2 D0, 3 D1, 4 D2, 5 D3, 6 D4, 7 D5, 8 D6, 9 D7, 11 !O7 (out), 12 !O6 (out), 13 !O5 (out), 14 !O4 (out), 15 !O3 (out), 16 !O2 (out), 17 !O1 (out), 18 !O0 (out), 19 !OEB
part B pins: 10 GND (power), 20 VCC (power)

## 54FCT540S
designator IC?, comment MEMORY
OC_FARNELL: unknown; OC_NEWARK: unknown
footprint SO20-2
part A pins: 1 !OEA, 2 D0, 3 D1, 4 D2, 5 D3, 6 D4, 7 D5, 8 D6, 9 D7, 11 !O7 (out), 12 !O6 (out), 13 !O5 (out), 14 !O4 (out), 15 !O3 (out), 16 !O2 (out), 17 !O1 (out), 18 !O0 (out), 19 !OEB
part B pins: 10 GND (power), 20 VCC (power)

## 54FCT541L
designator IC?, comment MEMORY
OC_FARNELL: unknown; OC_NEWARK: unknown
footprint L20-2
part A pins: 1 !OEA, 2 D0, 3 D1, 4 D2, 5 D3, 6 D4, 7 D5, 8 D6, 9 D7, 11 O7 (out), 12 O6 (out), 13 O5 (out), 14 O4 (out), 15 O3 (out), 16 O2 (out), 17 O1 (out), 18 O0 (out), 19 OEB
part B pins: 10 GND (power), 20 VCC (power)

## 54FCT541P
designator IC?, comment MEMORY
OC_FARNELL: unknown; OC_NEWARK: unknown
footprint DIL20
part A pins: 1 !OEA, 2 D0, 3 D1, 4 D2, 5 D3, 6 D4, 7 D5, 8 D6, 9 D7, 11 O7 (out), 12 O6 (out), 13 O5 (out), 14 O4 (out), 15 O3 (out), 16 O2 (out), 17 O1 (out), 18 O0 (out), 19 OEB
part B pins: 10 GND (power), 20 VCC (power)

## 54FCT541S
designator IC?, comment MEMORY
OC_FARNELL: unknown; OC_NEWARK: unknown
footprint SO20-2
part A pins: 1 !OEA, 2 D0, 3 D1, 4 D2, 5 D3, 6 D4, 7 D5, 8 D6, 9 D7, 11 O7 (out), 12 O6 (out), 13 O5 (out), 14 O4 (out), 15 O3 (out), 16 O2 (out), 17 O1 (out), 18 O0 (out), 19 OEB
part B pins: 10 GND (power), 20 VCC (power)

## 54FCT543L
designator IC?, comment MEMORY
OC_FARNELL: unknown; OC_NEWARK: unknown
footprint L28-1
part A pins: 1 NC, 2 !LEBA, 3 !OEBA, 4 A0, 5 A1, 6 A2, 7 A3, 8 NC@1, 9 A4, 10 A5, 11 A6, 12 A7, 13 !CEAB, 15 NC@2, 16 !OEAB, 17 !LEAB, 18 B7, 19 B6, 20 B5, 21 B4, 22 NC@3, 23 B3, 24 B2, 25 B1, 26 B0, 27 !CEBA
part B pins: 14 GND (power), 28 VCC (power)

## 54FCT543P
designator IC?, comment MEMORY
OC_FARNELL: unknown; OC_NEWARK: unknown
footprint DIL24-6
part A pins: 1 !LEBA, 2 !OEBA, 3 A0, 4 A1, 5 A2, 6 A3, 7 A4, 8 A5, 9 A6, 10 A7, 11 !CEAB, 13 !OEAB, 14 !LEAB, 15 B7, 16 B6, 17 B5, 18 B4, 19 B3, 20 B2, 21 B1, 22 B0, 23 !CEBA
part B pins: 12 GND (power), 24 VCC (power)

## 54FCT543S
designator IC?, comment MEMORY
OC_FARNELL: unknown; OC_NEWARK: unknown
footprint SO24-2
part A pins: 1 !LEBA, 2 !OEBA, 3 A0, 4 A1, 5 A2, 6 A3, 7 A4, 8 A5, 9 A6, 10 A7, 11 !CEAB, 13 !OEAB, 14 !LEAB, 15 B7, 16 B6, 17 B5, 18 B4, 19 B3, 20 B2, 21 B1, 22 B0, 23 !CEBA
part B pins: 12 GND (power), 24 VCC (power)

## 54FCT573L
designator IC?, comment MEMORY
OC_FARNELL: unknown; OC_NEWARK: unknown
footprint L20-2
part A pins: 1 !OE, 2 D0, 3 D1, 4 D2, 5 D3, 6 D4, 7 D5, 8 D6, 9 D7, 11 LE, 12 O7 (out), 13 O6 (out), 14 O5 (out), 15 O4 (out), 16 O3 (out), 17 O2 (out), 18 O1 (out), 19 O0 (out)
part B pins: 10 GND (power), 20 VCC (power)

## 54FCT573P
designator IC?, comment MEMORY
OC_FARNELL: unknown; OC_NEWARK: unknown
footprint DIL20
part A pins: 1 !OE, 2 D0, 3 D1, 4 D2, 5 D3, 6 D4, 7 D5, 8 D6, 9 D7, 11 LE, 12 O7 (out), 13 O6 (out), 14 O5 (out), 15 O4 (out), 16 O3 (out), 17 O2 (out), 18 O1 (out), 19 O0 (out)
part B pins: 10 GND (power), 20 VCC (power)

## 54FCT573S
designator IC?, comment MEMORY
OC_FARNELL: unknown; OC_NEWARK: unknown
footprint SO20-2
part A pins: 1 !OE, 2 D0, 3 D1, 4 D2, 5 D3, 6 D4, 7 D5, 8 D6, 9 D7, 11 LE, 12 O7 (out), 13 O6 (out), 14 O5 (out), 15 O4 (out), 16 O3 (out), 17 O2 (out), 18 O1 (out), 19 O0 (out)
part B pins: 10 GND (power), 20 VCC (power)

## 54FCT574L
designator IC?, comment MEMORY
OC_FARNELL: unknown; OC_NEWARK: unknown
footprint L20-2
part A pins: 1 !OE, 2 D0, 3 D1, 4 D2, 5 D3, 6 D4, 7 D5, 8 D6, 9 D7, 11 CP, 12 O7 (out), 13 O6 (out), 14 O5 (out), 15 O4 (out), 16 O3 (out), 17 O2 (out), 18 O1 (out), 19 O0 (out)
part B pins: 10 GND (power), 20 VCC (power)

## 54FCT574P
designator IC?, comment MEMORY
OC_FARNELL: unknown; OC_NEWARK: unknown
footprint DIL20
part A pins: 1 !OE, 2 D0, 3 D1, 4 D2, 5 D3, 6 D4, 7 D5, 8 D6, 9 D7, 11 CP, 12 O7 (out), 13 O6 (out), 14 O5 (out), 15 O4 (out), 16 O3 (out), 17 O2 (out), 18 O1 (out), 19 O0 (out)
part B pins: 10 GND (power), 20 VCC (power)

## 54FCT574S
designator IC?, comment MEMORY
OC_FARNELL: unknown; OC_NEWARK: unknown
footprint SO20-2
part A pins: 1 !OE, 2 D0, 3 D1, 4 D2, 5 D3, 6 D4, 7 D5, 8 D6, 9 D7, 11 CP, 12 O7 (out), 13 O6 (out), 14 O5 (out), 15 O4 (out), 16 O3 (out), 17 O2 (out), 18 O1 (out), 19 O0 (out)
part B pins: 10 GND (power), 20 VCC (power)

## 54FCT640L
designator IC?, comment MEMORY
OC_FARNELL: unknown; OC_NEWARK: unknown
footprint L20-2
part A pins: 1 T/!R, 2 A0, 3 A1, 4 A2, 5 A3, 6 A4, 7 A5, 8 A6, 9 A7, 11 B7, 12 B6, 13 B5, 14 B4, 15 B3, 16 B2, 17 B1, 18 B0, 19 !OE
part B pins: 10 GND (power), 20 VCC (power)

## 54FCT640P
designator IC?, comment MEMORY
OC_FARNELL: unknown; OC_NEWARK: unknown
footprint DIL20
part A pins: 1 T/!R, 2 A0, 3 A1, 4 A2, 5 A3, 6 A4, 7 A5, 8 A6, 9 A7, 11 B7, 12 B6, 13 B5, 14 B4, 15 B3, 16 B2, 17 B1, 18 B0, 19 !OE
part B pins: 10 GND (power), 20 VCC (power)

## 54FCT640S
designator IC?, comment MEMORY
OC_FARNELL: unknown; OC_NEWARK: unknown
footprint SO20-2
part A pins: 1 T/!R, 2 A0, 3 A1, 4 A2, 5 A3, 6 A4, 7 A5, 8 A6, 9 A7, 11 B7, 12 B6, 13 B5, 14 B4, 15 B3, 16 B2, 17 B1, 18 B0, 19 !OE
part B pins: 10 GND (power), 20 VCC (power)

## 54FCT645L
designator IC?, comment MEMORY
OC_FARNELL: unknown; OC_NEWARK: unknown
footprint L20-2
part A pins: 1 T/!R, 2 A0, 3 A1, 4 A2, 5 A3, 6 A4, 7 A5, 8 A6, 9 A7, 11 B7, 12 B6, 13 B5, 14 B4, 15 B3, 16 B2, 17 B1, 18 B0, 19 !OE
part B pins: 10 GND (power), 20 VCC (power)

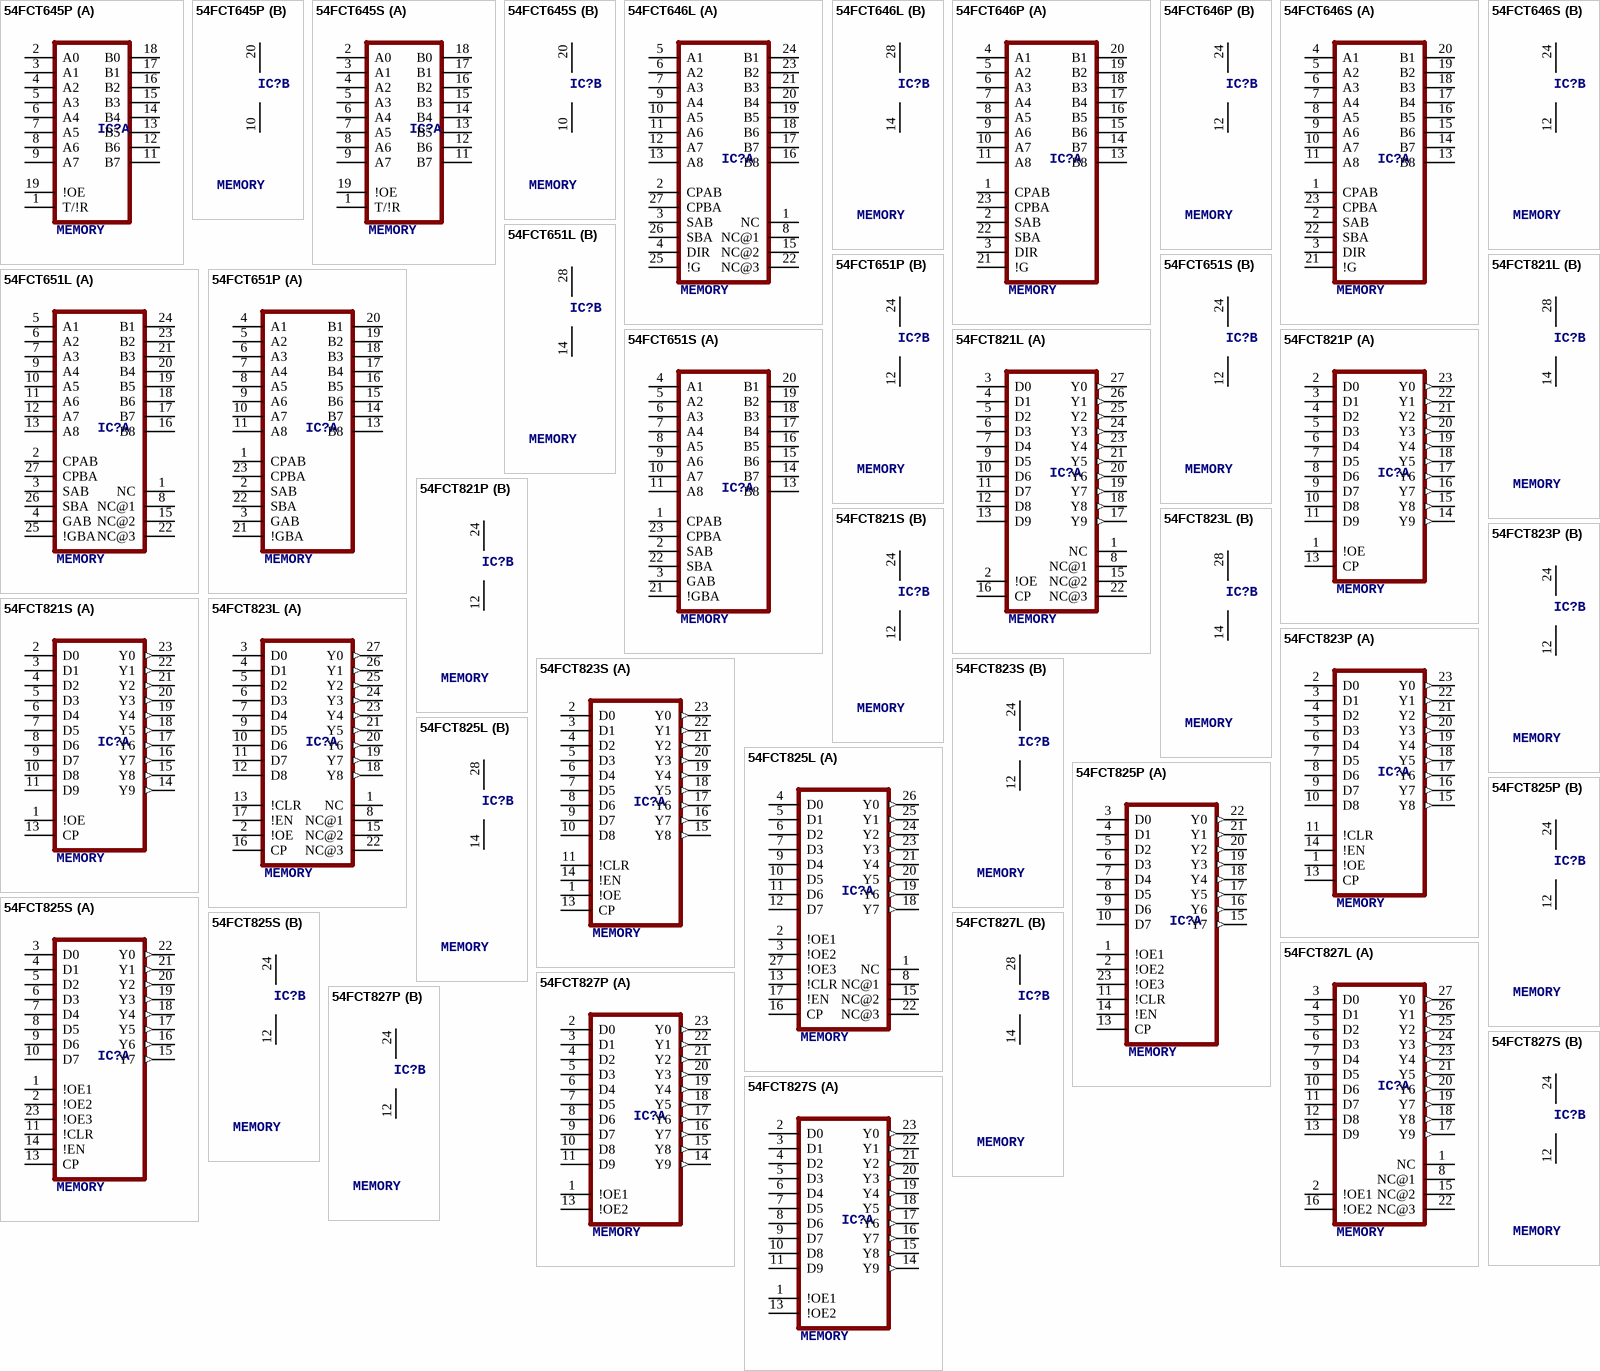
[diagram p8: symbols 54FCT645P to 54FCT827S]

## 54FCT645P
designator IC?, comment MEMORY
OC_FARNELL: unknown; OC_NEWARK: unknown
footprint DIL20
part A pins: 1 T/!R, 2 A0, 3 A1, 4 A2, 5 A3, 6 A4, 7 A5, 8 A6, 9 A7, 11 B7, 12 B6, 13 B5, 14 B4, 15 B3, 16 B2, 17 B1, 18 B0, 19 !OE
part B pins: 10 GND (power), 20 VCC (power)

## 54FCT645S
designator IC?, comment MEMORY
OC_FARNELL: unknown; OC_NEWARK: unknown
footprint SO20-2
part A pins: 1 T/!R, 2 A0, 3 A1, 4 A2, 5 A3, 6 A4, 7 A5, 8 A6, 9 A7, 11 B7, 12 B6, 13 B5, 14 B4, 15 B3, 16 B2, 17 B1, 18 B0, 19 !OE
part B pins: 10 GND (power), 20 VCC (power)

## 54FCT646L
designator IC?, comment MEMORY
OC_FARNELL: unknown; OC_NEWARK: unknown
footprint L28-1
part A pins: 1 NC, 2 CPAB, 3 SAB, 4 DIR, 5 A1, 6 A2, 7 A3, 8 NC@1, 9 A4, 10 A5, 11 A6, 12 A7, 13 A8, 15 NC@2, 16 B8, 17 B7, 18 B6, 19 B5, 20 B4, 21 B3, 22 NC@3, 23 B2, 24 B1, 25 !G, 26 SBA, 27 CPBA
part B pins: 14 GND (power), 28 VCC (power)

## 54FCT646P
designator IC?, comment MEMORY
OC_FARNELL: unknown; OC_NEWARK: unknown
footprint DIL24-6
part A pins: 1 CPAB, 2 SAB, 3 DIR, 4 A1, 5 A2, 6 A3, 7 A4, 8 A5, 9 A6, 10 A7, 11 A8, 13 B8, 14 B7, 15 B6, 16 B5, 17 B4, 18 B3, 19 B2, 20 B1, 21 !G, 22 SBA, 23 CPBA
part B pins: 12 GND (power), 24 VCC (power)

## 54FCT646S
designator IC?, comment MEMORY
OC_FARNELL: unknown; OC_NEWARK: unknown
footprint SO24-2
part A pins: 1 CPAB, 2 SAB, 3 DIR, 4 A1, 5 A2, 6 A3, 7 A4, 8 A5, 9 A6, 10 A7, 11 A8, 13 B8, 14 B7, 15 B6, 16 B5, 17 B4, 18 B3, 19 B2, 20 B1, 21 !G, 22 SBA, 23 CPBA
part B pins: 12 GND (power), 24 VCC (power)

## 54FCT651L
designator IC?, comment MEMORY
OC_FARNELL: unknown; OC_NEWARK: unknown
footprint L28-1
part A pins: 1 NC, 2 CPAB, 3 SAB, 4 GAB, 5 A1, 6 A2, 7 A3, 8 NC@1, 9 A4, 10 A5, 11 A6, 12 A7, 13 A8, 15 NC@2, 16 B8, 17 B7, 18 B6, 19 B5, 20 B4, 21 B3, 22 NC@3, 23 B2, 24 B1, 25 !GBA, 26 SBA, 27 CPBA
part B pins: 14 GND (power), 28 VCC (power)

## 54FCT651P
designator IC?, comment MEMORY
OC_FARNELL: unknown; OC_NEWARK: unknown
footprint DIL24-6
part A pins: 1 CPAB, 2 SAB, 3 GAB, 4 A1, 5 A2, 6 A3, 7 A4, 8 A5, 9 A6, 10 A7, 11 A8, 13 B8, 14 B7, 15 B6, 16 B5, 17 B4, 18 B3, 19 B2, 20 B1, 21 !GBA, 22 SBA, 23 CPBA
part B pins: 12 GND (power), 24 VCC (power)